# Altium schematic symbol library DBLib.SchLib: 89 symbols
Pins are listed as number, name and electrical type; pins without a type are passive.

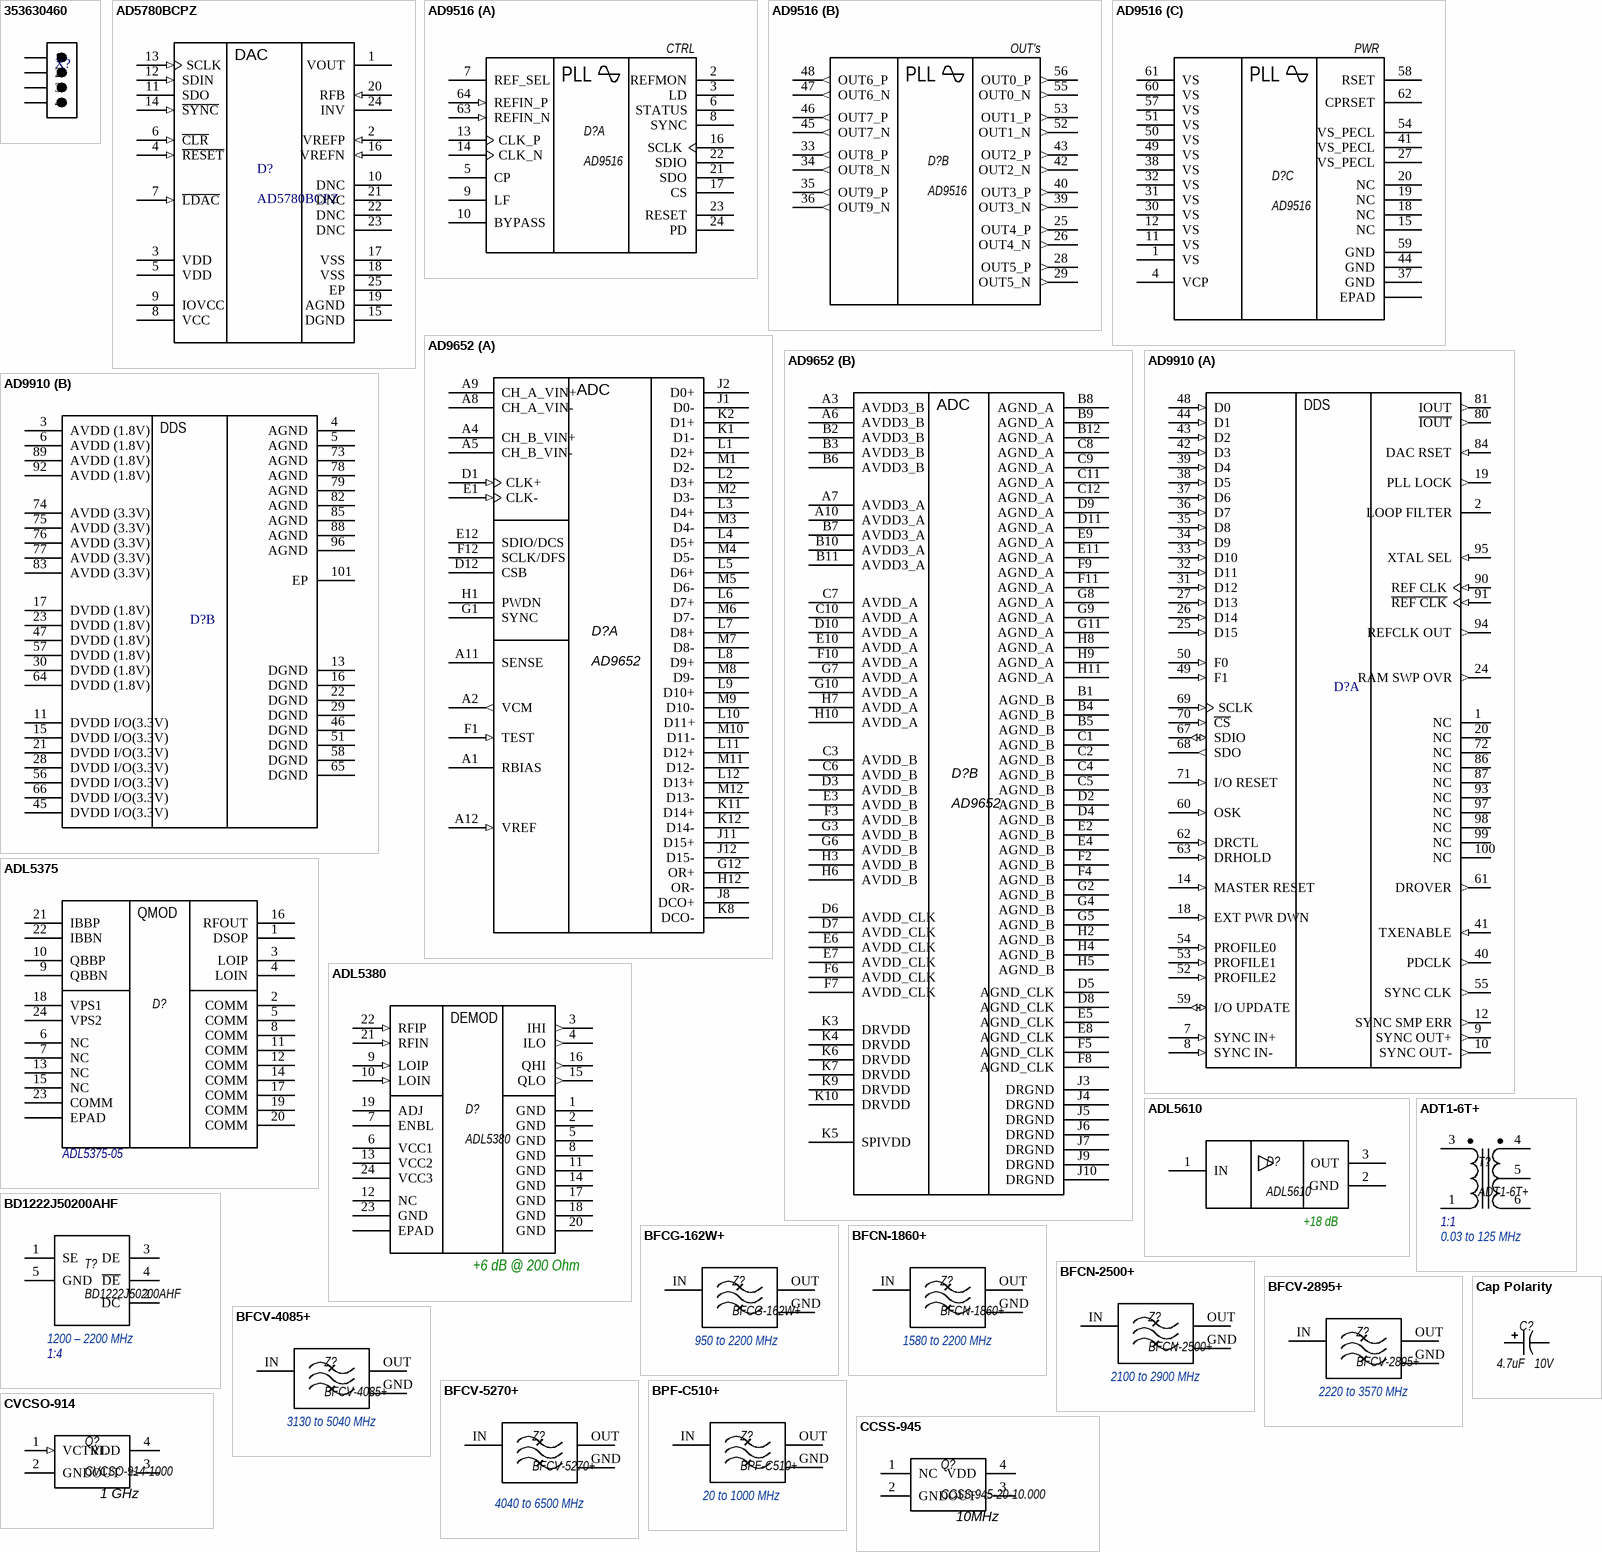
[diagram p0: symbols 353630460 to CVCSO-914]

## 353630460
designator X?  (value not drawn)
2.00mm Pitch Sherlock Wire-to-Board Header, Right-Angle, with Positive Lock, 4 Circuits; Manufacturer: Molex; Mate-with P/N: 355070400; Mate-with Series: 35507; P/N: 353630460; Type: 2.00mm Pitch Sherlock Wire-to-Board Header, Right-Angle; Series: 35363; Pitch: 2.00mm; Name: 353630460; Supplier 1: Digi-Key; Supplier Part Number 1: WM18933-ND
footprint CON_353630460
pins: 1, 2, 3, 4

## AD5780BCPZ
designator D?
Single 18-Bit System Ready Voltage Output Digital-to-Analog Converter, + / -1 LSB INL, -40 to +125 degC, CP-24-5, Pb-Free, Reel; Generic Part Number: AD5780; Manufacturer: Analog Devices; Single Supply: No; Settling Time: 2.5Âµs; Max V+: 16.5V; Resolution (Bits): 18; # DAC Outputs: 1; ComponentLink4Description: Product URL; PartNumber: AD5780BCPZ; ComponentLink1Description: Manufacturer URL; ComponentLink2Description: Datasheet; DatasheetVersion: Rev.C; ComponentLink3URL: http://www.analog.com/static/imported-files/packages/PKG_PDF/LFCSP(CP)/CP_24_5.pdf; ComponentLink1URL: http://www.analog.com/en/index.html; RevisionNote: Component URL fixed; ComponentLink4URL: http://www.analog.com/en/digital-to-analog-converters/da-converters/ad5780/products/product.html; ComponentLink2URL: http://www.analog.com/static/imported-files/data_sheets/AD5780.pdf; PackageReference: CP-24-5; ComponentLink3Description: Package Specification; PackageVersion: 04-11-2012-B; RoHS: Y; Mounting Technology: Surface Mount; PackageDescription: 24-Lead Lead Frame Chip Scale Package [LFCSP_VQ] 4 x 5 mm Body, Very Thin Quad
footprint CP-24-5_L (QFN, 24-Leads, Body 4x5mm, Pitch 0.5mm, Thermal Pad 2.65x3.65mm, IPC High Density)
footprint CP-24-5_N (QFN, 24-Leads, Body 4x5mm, Pitch 0.5mm, Thermal Pad 2.65x3.65mm, IPC Medium Density)
footprint CP-24-5_M (QFN, 24-Leads, Body 4x5mm, Pitch 0.5mm, Thermal Pad 2.65x3.65mm, IPC Low Density)
pins: 1 VOUT (hiz) "Analog Output Voltage.", 2 VREFP (in) "Positive Reference Voltage Input. A voltage in the range of 5 V to VDD - 2.5 V can be connected to this pin.", 3 VDD (power) "Positive Analog Supply Connection. A voltage in the range of 7.5 V to 16.5 V can be connected to this pin. VDD must be decoupled to AGND.", 4 ~{RESET} (in) "Active Low Reset. Asserting this pin returns the AD5780 to its power-on status.", 5 VDD (power) "Positive Analog Supply Connection. A voltage in the range of 7.5 V to 16.5 V can be connected to this pin. VDD must be decoupled to AGND.", 6 ~{CLR} (in) "Active Low Input. Asserting this pin sets the DAC register to a user defined value (see Table 12) and updates the DAC output. The output value depends on the DAC register coding that is being used, either binary or twos (See Datasheet)", 7 ~{LDAC} (in) "Active Low Load DAC Logic Input. This pin is used to update the DAC register and, consequently, the analog output. When tied permanently low, the output is updated on the rising edge of S\Y\N\C\. If L\D\A\C\ is held high (See Datasheet)", 8 VCC (power) "Digital Supply. Voltage range is from 2.7 V to 5.5 V. VCC should be decoupled to DGND.", 9 IOVCC (power) "Digital Interface Supply. Digital threshold levels are referenced to the voltage applied to this pin. Voltage range is from 1.71 V to 5.5 V.", 10 DNC "Do Not Connect. Do not connect to these pins.", 11 SDO (hiz) "Serial Data Output.", 12 SDIN (in) "Serial Data Input. This device has a 24-bit input shift register. Data is clocked into the register on the falling edge of the serial clock input.", 13 SCLK (in) "Serial Clock Input. Data is clocked into the input shift register on the falling edge of the serial clock input. Data can be transferred at rates of up to 35 MHz.", 14 ~{SYNC} (in) "Level Triggered Control Input (Active Low). This is the frame synchronization signal for the input data. When S\Y\N\C\ goes low, it enables the input shift register, and data is then transferred in on the falling edges of (See Datasheet)", 15 DGND (power) "Ground Reference Pin for Digital Circuitry.", 16 VREFN (in) "Negative Reference Voltage Input.", 17 VSS (power) "Negative Analog Supply Connection. A voltage in the range of -16.5 V to -2.5 V can be connected to this pin. VSS must be decoupled to AGND.", 18 VSS (power) "Negative Analog Supply Connection. A voltage in the range of -16.5 V to -2.5 V can be connected to this pin. VSS must be decoupled to AGND.", 19 AGND (power) "Ground Reference Pin for Analog Circuitry.", 20 RFB (in) "Feedback Connection for External Amplifier. See the AD5780 Features section for further details.", 21 DNC "Do Not Connect. Do not connect to these pins.", 22 DNC "Do Not Connect. Do not connect to these pins.", 23 DNC "Do Not Connect. Do not connect to these pins.", 24 INV "Inverting Input Connection for External Amplifier. See the AD5780 Features section for further details.", 25 EP (power) "Negative Analog Supply Connection (VSS). A voltage in the range of -16.5 V to -2.5 V can be connected to this pin. VSS must be decoupled to AGND. The paddle can be left electrically unconnected provided that a supply (See Datasheet)"
text: DAC

## AD9516
designator D?
14-Output Clock Generator; Manufacturer: Analog Devices; Input Frequency: 0 to 2.4 GHz; Input Sensitivity: 150 mV p-p; Name: AD9516-4; Output Frequency, Maximum: 2950 MHz; Voltage: 2.5 V to 3.3 V; P/N: AD9516-4BCPZ; Package: LFSCSP-64; Temperature Range: −40°C to +85°C; Type: 14-Output Clock Generator; Supplier 1: Digi-Key; Supplier Part Number 1: AD9516-4BCPZ-ND
footprint LFCSP-64
part A pins: 2 REFMON, 3 LD, 5 CP, 6 STATUS, 7 REF_SEL, 8 SYNC, 9 LF, 10 BYPASS, 13 CLK_P, 14 CLK_N, 16 SCLK, 17 CS, 21 SDO, 22 SDIO, 23 RESET, 24 PD, 63 REFIN_N (in), 64 REFIN_P (in)
part B pins: 25 OUT4_P (out), 26 OUT4_N (out), 28 OUT5_P (out), 29 OUT5_N (out), 33 OUT8_P (out), 34 OUT8_N (out), 35 OUT9_P (out), 36 OUT9_N (out), 39 OUT3_N (out), 40 OUT3_P (out), 42 OUT2_N (out), 43 OUT2_P (out), 45 OUT7_N (out), 46 OUT7_P (out), 47 OUT6_N (out), 48 OUT6_P (out), 52 OUT1_N (out), 53 OUT1_P (out), 55 OUT0_N (out), 56 OUT0_P (out)
part C pins: 0 EPAD (power), 1 VS (power), 4 VCP (power), 11 VS (power), 12 VS (power), 15 NC, 18 NC, 19 NC, 20 NC, 27 VS_PECL (power), 30 VS (power), 31 VS (power), 32 VS (power), 37 GND (power), 38 VS (power), 41 VS_PECL (power), 44 GND (power), 49 VS (power), 50 VS (power), 51 VS (power), 54 VS_PECL (power), 57 VS (power), 58 RSET, 59 GND (power), 60 VS (power), 61 VS (power), 62 CPRSET
part A text: CTRL; PLL
part B text: OUT's; PLL
part C text: PWR; PLL

## AD9652
designator D?
Dual, 16-bit analog-to-digital converter (ADC) / with sampling speeds of up to 310 MSPS; Manufacturer: Analog Devices; P/N: AD9652BBCZ-310; Name: AD9652; Sampling Frequency: 310 MSPS; Type: ADC; Supplier 1: Digi-Key; Supplier Part Number 1: AD9652BBCZ-310-ND
footprint BGA144x12
part A pins: A1 RBIAS, A2 VCM (out), A4 CH_B_VIN+, A5 CH_B_VIN-, A8 CH_A_VIN-, A9 CH_A_VIN+, A11 SENSE, A12 VREF (in), D1 CLK+ (in), D12 CSB, E1 CLK- (in), E12 SDIO/DCS, F1 TEST (in), F12 SCLK/DFS, G1 SYNC, G12 OR+, H1 PWDN, H12 OR-, J1 D0-, J2 D0+, J8 DCO+, J11 D15+, J12 D15-, K1 D1-, K2 D1+, K8 DCO-, K11 D14+, K12 D14-, L1 D2+, L2 D3+, L3 D4+, L4 D5+, L5 D6+, L6 D7+, L7 D8+, L8 D9+, L9 D10+, L10 D11+, L11 D12+, L12 D13+, M1 D2-, M2 D3-, M3 D4-, M4 D5-, M5 D6-, M6 D7-, M7 D8-, M8 D9-, M9 D10-, M10 D11-, M11 D12-, M12 D13-
part B pins: A3 AVDD3_B, A6 AVDD3_B, A7 AVDD3_A, A10 AVDD3_A, B1 AGND_B, B2 AVDD3_B, B3 AVDD3_B, B4 AGND_B, B5 AGND_B, B6 AVDD3_B, B7 AVDD3_A, B8 AGND_A, B9 AGND_A, B10 AVDD3_A, B11 AVDD3_A, B12 AGND_A, C1 AGND_B, C2 AGND_B, C3 AVDD_B, C4 AGND_B, C5 AGND_B, C6 AVDD_B, C7 AVDD_A, C8 AGND_A, C9 AGND_A, C10 AVDD_A, C11 AGND_A, C12 AGND_A, D2 AGND_B, D3 AVDD_B, D4 AGND_B, D5 AGND_CLK, D6 AVDD_CLK, D7 AVDD_CLK, D8 AGND_CLK, D9 AGND_A, D10 AVDD_A, D11 AGND_A, E2 AGND_B, E3 AVDD_B, E4 AGND_B, E5 AGND_CLK, E6 AVDD_CLK, E7 AVDD_CLK, E8 AGND_CLK, E9 AGND_A, E10 AVDD_A, E11 AGND_A, F2 AGND_B, F3 AVDD_B, F4 AGND_B, F5 AGND_CLK, F6 AVDD_CLK, F7 AVDD_CLK, F8 AGND_CLK, F9 AGND_A, F10 AVDD_A, F11 AGND_A, G2 AGND_B, G3 AVDD_B, G4 AGND_B, G5 AGND_B, G6 AVDD_B, G7 AVDD_A, G8 AGND_A, G9 AGND_A, G10 AVDD_A, G11 AGND_A, H2 AGND_B, H3 AVDD_B, H4 AGND_B, H5 AGND_B, H6 AVDD_B, H7 AVDD_A, H8 AGND_A, H9 AGND_A, H10 AVDD_A, H11 AGND_A, J3 DRGND, J4 DRGND, J5 DRGND, J6 DRGND, J7 DRGND, J9 DRGND, J10 DRGND, K3 DRVDD, K4 DRVDD, K5 SPIVDD, K6 DRVDD, K7 DRVDD, K9 DRVDD, K10 DRVDD

## AD9910
designator D?, comment AD9910BSVZ  (value not drawn)
1 GSPS, 14-Bit, 3.3 V CMOS / Direct Digital Synthesizer; Name: AD9910; P/N: AD9910BSVZ
footprint Analog_Devices_SV-100-4_IPC_A
footprint Analog_Devices_SV-100-4_IPC_B
footprint Analog_Devices_SV-100-4_IPC_C
part A pins: 1 NC, 2 LOOP FILTER, 7 SYNC IN+ (in), 8 SYNC IN- (in), 9 SYNC OUT+ (out), 10 SYNC OUT- (out), 12 SYNC SMP ERR (out), 14 MASTER RESET (in), 18 EXT PWR DWN (in), 19 PLL LOCK (out), 20 NC, 24 RAM SWP OVR (out), 25 D15 (in), 26 D14 (in), 27 D13 (in), 31 D12 (in), 32 D11 (in), 33 D10 (in), 34 D9 (in), 35 D8 (in), 36 D7 (in), 37 D6 (in), 38 D5 (in), 39 D4 (in), 40 PDCLK (out), 41 TXENABLE (in), 42 D3 (in), 43 D2 (in), 44 D1 (in), 48 D0 (in), 49 F1 (in), 50 F0 (in), 52 PROFILE2 (in), 53 PROFILE1 (in), 54 PROFILE0 (in), 55 SYNC CLK (out), 59 I/O UPDATE (io), 60 OSK (in), 61 DROVER (out), 62 DRCTL (in), 63 DRHOLD (in), 67 SDIO (io), 68 SDO (out), 69 SCLK (in), 70 ~{CS} (in), 71 I/O RESET (in), 72 NC, 80 ~{IOUT} (out), 81 IOUT (out), 84 DAC RSET (in), 86 NC, 87 NC, 90 REF CLK (in), 91 ~{REF CLK} (in), 93 NC, 94 REFCLK OUT (out), 95 XTAL SEL (in), 97 NC, 98 NC, 99 NC, 100 NC
part B pins: 3 AVDD (1.8V) (power), 4 AGND (power), 5 AGND (power), 6 AVDD (1.8V) (power), 11 DVDD I/O(3.3V) (power), 13 DGND (power), 15 DVDD I/O(3.3V) (power), 16 DGND (power), 17 DVDD (1.8V) (power), 21 DVDD I/O(3.3V) (power), 22 DGND (power), 23 DVDD (1.8V) (power), 28 DVDD I/O(3.3V) (power), 29 DGND (power), 30 DVDD (1.8V) (power), 45 DVDD I/O(3.3V) (power), 46 DGND (power), 47 DVDD (1.8V) (power), 51 DGND (power), 56 DVDD I/O(3.3V) (power), 57 DVDD (1.8V) (power), 58 DGND (power), 64 DVDD (1.8V) (power), 65 DGND (power), 66 DVDD I/O(3.3V) (power), 73 AGND (power), 74 AVDD (3.3V) (power), 75 AVDD (3.3V) (power), 76 AVDD (3.3V) (power), 77 AVDD (3.3V) (power), 78 AGND (power), 79 AGND (power), 82 AGND (power), 83 AVDD (3.3V) (power), 85 AGND (power), 88 AGND (power), 89 AVDD (1.8V) (power), 92 AVDD (1.8V) (power), 96 AGND (power), 101 EP (power)
part A text: DDS
part B text: DDS

## ADL5375
designator D?  Name: ADL5375-05  (hidden comment: ADL5375)
Broadband Quadrature Modulator; Manufacturer: Analog Devices; Voltage: 4.75 V to 5.25 V; P/N: ADL5375-05SCPZEPR7; Package: 24-lead LFCSP_VQ package; Temperature Range: –40°C to 125°C; Type: Broadband Quadrature Modulator; Supplier 1: Digi-Key; Supplier Part Number 1: ADL5375-05ACPZ-R7CT-ND
footprint LFCSP-24 (QFN, 24-Leads, Body 4,00x4,00mm, Pitch 0,50mm, Thermal Pad 2,50x2,50mm, IPC Medium Density)
pins: 1 DSOP, 2 COMM, 3 LOIP, 4 LOIN, 5 COMM, 6 NC, 7 NC, 8 COMM, 9 QBBN, 10 QBBP, 11 COMM, 12 COMM, 13 NC, 14 COMM, 15 NC, 16 RFOUT, 17 COMM, 18 VPS1, 19 COMM, 20 COMM, 21 IBBP, 22 IBBN, 23 COMM, 24 VPS2, 25 EPAD
text: QMOD

## ADL5380
designator D?
Quadrature Demodulator; Manufacturer: Analog Devices; Voltage: 5V; Type: Broadband quadrature I-Q demodulator; P/N: ADL5380ACPZ-R7; Name: ADL5380; Package: 24-Lead LFCSP_WQ; Temperature Range: –40°C to 125°C; Supplier 1: Digi-Key; Supplier Part Number 1: ADL5380ACPZ-R7CT-ND
footprint LFCSP-24 (QFN, 24-Leads, Body 4,00x4,00mm, Pitch 0,50mm, Thermal Pad 2,50x2,50mm, IPC Medium Density)
pins: 1 GND, 2 GND, 3 IHI (out), 4 ILO (out), 5 GND, 6 VCC1, 7 ENBL, 8 GND, 9 LOIP (in), 10 LOIN (in), 11 GND, 12 NC, 13 VCC2, 14 GND, 15 QLO (out), 16 QHI (out), 17 GND, 18 GND, 19 ADJ, 20 GND, 21 RFIN (in), 22 RFIP (in), 23 GND, 24 VCC3, 25 EPAD
text: DEMOD; +6 dB @ 200 Ohm

## ADL5610
designator D?
RF/IF Gain Block; Manufacturer: Analog Devices; P/N: ADL5610ARKZ-R7; Name: ADL5610; Package: SOT89; Type: RF/IF Gain Block; Supplier 1: Digi-Key; Supplier Part Number 1: ADL5610ARKZ-R7CT-ND
footprint ADL5610 (SOT89, 3-Leads, Body 4,49x2,44mm, Pitch 1,50mm, Lead Span 4,0mm, IPC Medium Density)
pins: 1 IN, 2 GND, 3 OUT
text: +18 dB

## ADT1-6T+
designator T?  Frequency: 0.03 to 125 MHz  Ratio: 1:1
RF Transformer; Manufacturer: Mini-Circuits; Name: ADT1-6T+; P/N: ADT1-6T+; Type: RF Transformer; Package: CD637
footprint CD637 (RF Transformer)
pins: 1, 3, 4, 5, 6

## BD1222J50200AHF
designator T?  Frequency: 1200 – 2200 MHz  Ratio: 1:4
RF Transformer; Manufacturer: Anaren; Name: BD1222J50200AHF; P/N: BD1222J50200AHF; Type: RF Transformer; Package: Low Profile 0805; Supplier 1: Mouser; Supplier Part Number 1: 620-BD1222J50200AHF
footprint BD1222J (Low Profile 0805 Balun)
pins: 1 SE, 2 DC, 3 DE, 4 ~{DE}, 5 GND

## BFCG-162W+
designator Z?  Frequency: 950 to 2200 MHz
Bandpass Filter; Manufacturer: Mini-Circuits; Name: BFCG-162W+; P/N: BFCG-162W+; Type: Bandpass Filter; Package: GE0805C-3
footprint GE0805C-3 (Bandpass Filter)
pins: GND, IN, OUT

## BFCN-1860+
designator Z?  Frequency: 1580 to 2200 MHz
Bandpass Filter; Manufacturer: Mini-Circuits; Name: BFCN-1860+; P/N: BFCN-1860+; Type: Bandpass Filter; Package: FV1206-4
footprint FV1206-4 (Bandpass Filter)
pins: GND, IN, OUT

## BFCN-2500+
designator Z?  Frequency: 2100 to 2900 MHz
Bandpass Filter; Manufacturer: Mini-Circuits; Name: BFCN-2500+; P/N: BFCN-2500+; Type: Bandpass Filter; Package: FV1206-4
footprint FV1206-4 (Bandpass Filter)
pins: GND, IN, OUT

## BFCV-2895+
designator Z?  Frequency: 2220 to 3570 MHz
Bandpass Filter; Manufacturer: Mini-Circuits; Name: BFCV-2895+; P/N: BFCV-2895+; Type: Bandpass Filter; Package: JV1210C
footprint JV1210C (Bandpass Filter)
pins: GND, IN, OUT

## BFCV-4085+
designator Z?  Frequency: 3130 to 5040 MHz
Bandpass Filter; Manufacturer: Mini-Circuits; Name: BFCV-4085+; P/N: BFCV-4085+; Type: Bandpass Filter; Package: JV1210C
footprint JV1210C (Bandpass Filter)
pins: GND, IN, OUT

## BFCV-5270+
designator Z?  Frequency: 4040 to 6500 MHz
Bandpass Filter; Manufacturer: Mini-Circuits; Name: BFCV-5270+; P/N: BFCV-5270+; Type: Bandpass Filter; Package: JV1210C
footprint JV1210C (Bandpass Filter)
pins: GND, IN, OUT

## BPF-C510+
designator Z?  Frequency: 20 to 1000 MHz
Wide band filter; Manufacturer: Mini-Circuits; Name: BPF-C510+; P/N: BPF-C510+; Type: Bandpass Filter; Package: HU1186
footprint BPF-C510+ (Bandpass Filter)
pins: GND, IN, OUT

## Cap Polarity
designator C?  value 4.7uF  Voltage: 10V  (hidden comment: *)
Tantalum Polarity SMD Capacitor; Manufacturer: AVX; Name: Tantalum Capacitor; Tolerance: 5%; Type: Tantalum Polarity Cap; P/N: TAJA475J010RNJ; Temperature Range: -55…85°C; Supplier 1: Digi-Key; Supplier Part Number 1: TAJA475J010RNJ-ND
footprint CASE_A (Tantalum Cap)
pins: 1, 2

## CCSS-945
designator Q?, comment CCSS-945-20-10.000  Frequency: 10MHz
Ultra Low Noise / SineWave Clock Oscillator; Input Current: 15mA Typical; Name: CCSS-945-10; Output: Unsymmetry; Output Current: ±24mA Max; Voltage: 5.0V; Package: 9×14 mm SMD; Temperature Range: 0°C to +70°C; P/N: CCSS-945-20-10.000; Type: SineWave Clock Oscillator
footprint CVCSO-914 (9?14 mm SMD)
pins: 1 NC, 2 GND, 3 OUT (out), 4 VDD

## CVCSO-914
designator Q?, comment CVCSO-914-1000  Frequency: 1 GHz
1GHz SAW Based VCSO; Input Current: 15mA Typical; Output: Unsymmetry; Output Current: ±24mA Max; Voltage: 5.0V; Name: CVCSO-914-1000; Package: CVCSO-914; Temperature Range: 0°C to +70°C; P/N: CVCSO-914-1000; Type: 1GHz SAW Based VCSO
footprint CVCSO-914 (9?14 mm SMD)
pins: 1 VCTRL (in), 2 GND, 3 OUT (out), 4 VDD

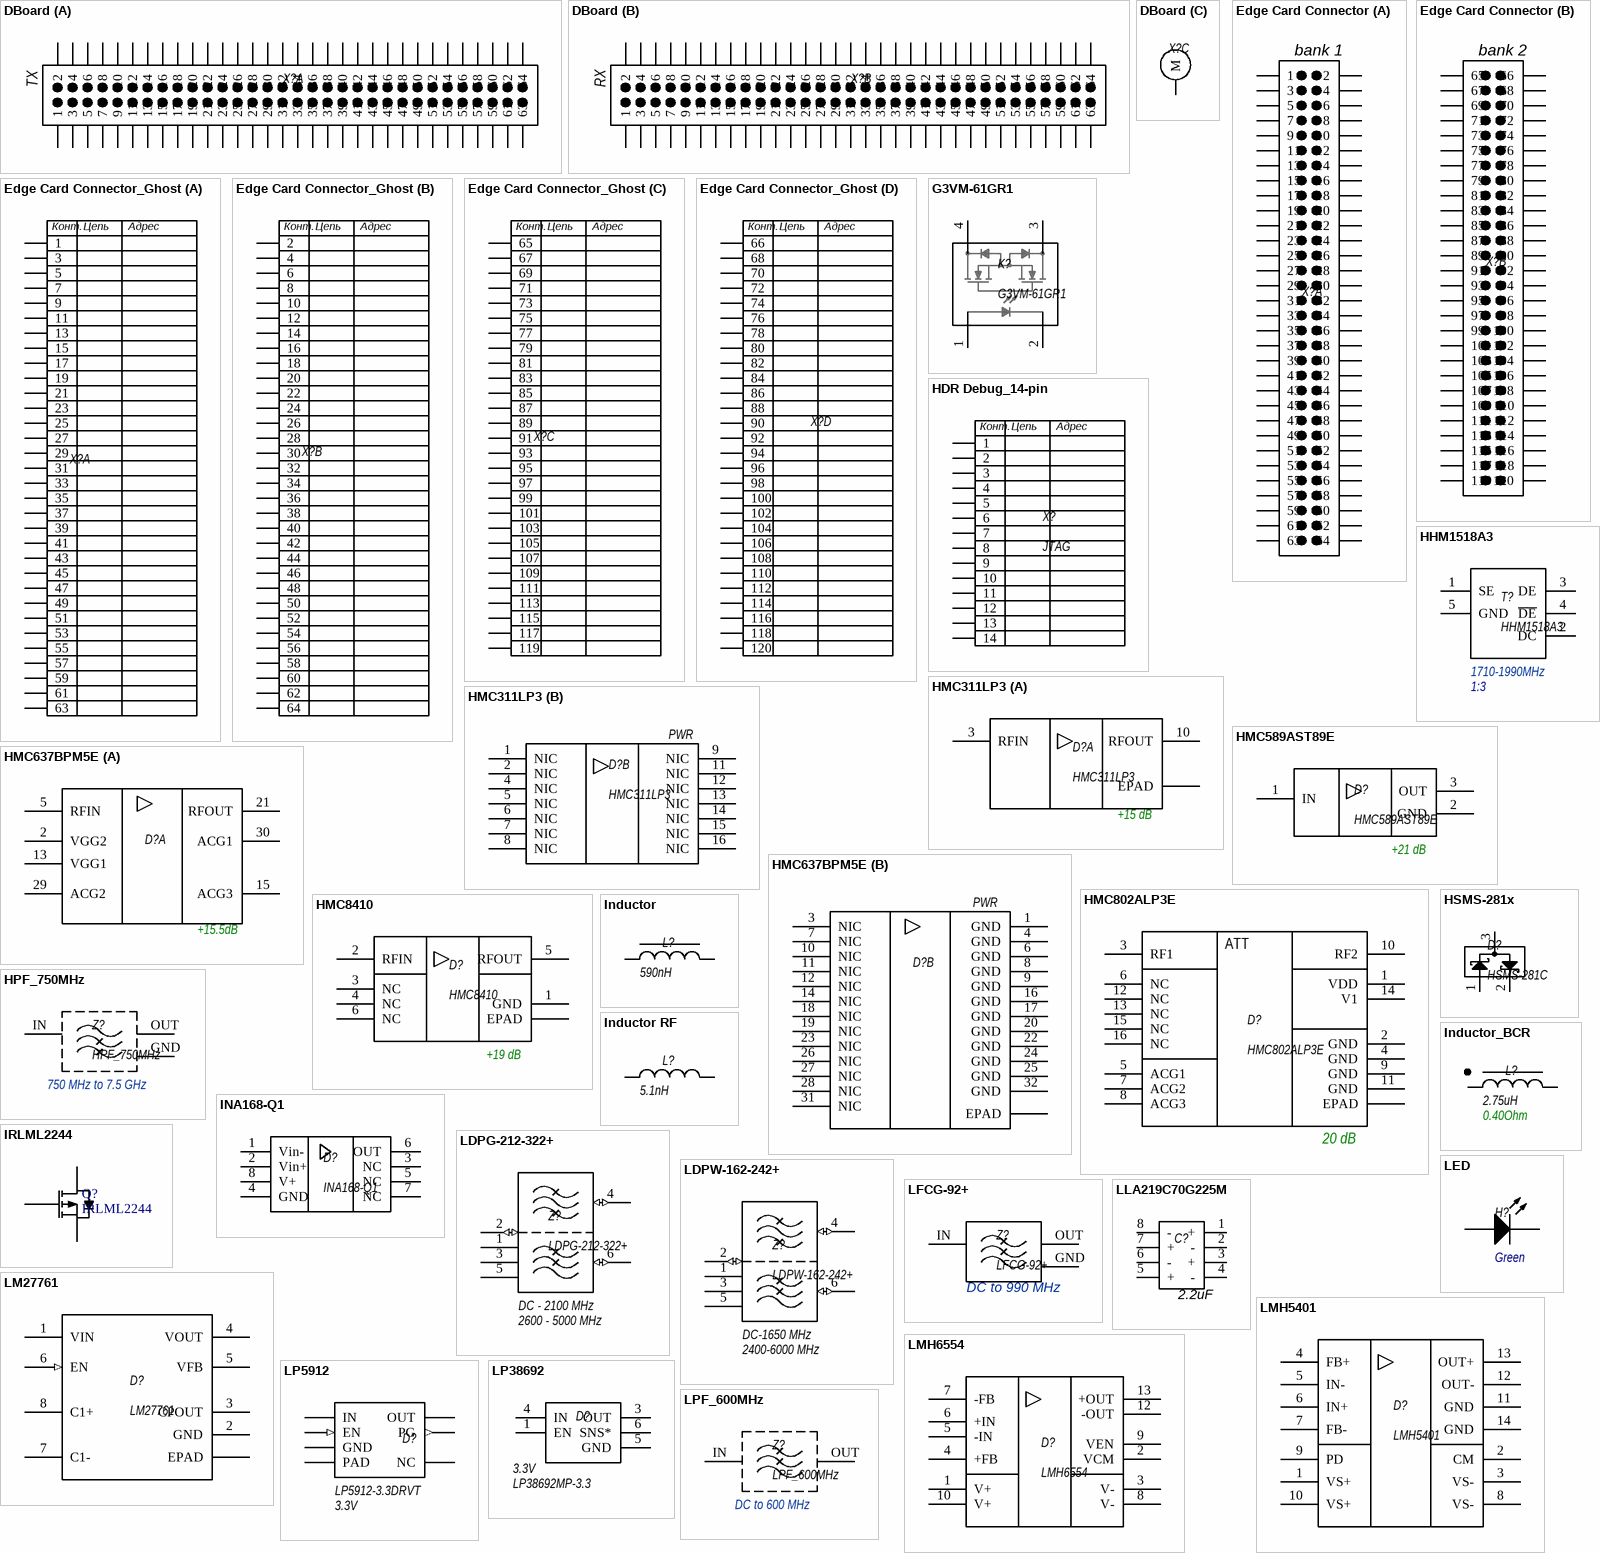
[diagram p1: symbols DBoard to LPF_600MHz]

## DBoard
designator X?  (value not drawn)
USRP DBoard; Manufacturer: Molex; Name: 1.00mm Pitch Mezzanine 714390164; P/N: 714390164; Supplier 1: Digi-Key; Supplier Part Number 1: WM17201-ND
footprint DBoard (USRP DBoard)
part A pins: 1, 2, 3, 4, 5, 6, 7, 8, 9, 10, 11, 12, 13, 14, 15, 16, 17, 18, 19, 20, 21, 22, 23, 24, 25, 26, 27, 28, 29, 30, 31, 32, 33, 34, 35, 36, 37, 38, 39, 40, 41, 42, 43, 44, 45, 46, 47, 48, 49, 50, 51, 52, 53, 54, 55, 56, 57, 58, 59, 60, 61, 62, 63, 64
part B pins: 65 1, 66 2, 67 3, 68 4, 69 5, 70 6, 71 7, 72 8, 73 9, 74 10, 75 11, 76 12, 77 13, 78 14, 79 15, 80 16, 81 17, 82 18, 83 19, 84 20, 85 21, 86 22, 87 23, 88 24, 89 25, 90 26, 91 27, 92 28, 93 29, 94 30, 95 31, 96 32, 97 33, 98 34, 99 35, 100 36, 101 37, 102 38, 103 39, 104 40, 105 41, 106 42, 107 43, 108 44, 109 45, 110 46, 111 47, 112 48, 113 49, 114 50, 115 51, 116 52, 117 53, 118 54, 119 55, 120 56, 121 57, 122 58, 123 59, 124 60, 125 61, 126 62, 127 63, 128 64
part C pins: 0 M
part A text: TX
part B text: RX

## Edge Card Connector
designator X?  (value not drawn)
0.80 mm High-Speed Edge Card Connector, Right-Angle; Manufacturer: SAMTEC; P/N: HSEC8-160-01-S-RA-BL; Name: 0.80 mm High-Speed Edge Card Connector; Supplier 1: Digi-Key; Supplier Part Number 1: HSEC8-160-01-S-RA-BL-ND
footprint Edge Card HSEC8-160-01 (0.80 mm High-Speed Edge Card)
part A pins: 1, 2, 3, 4, 5, 6, 7, 8, 9, 10, 11, 12, 13, 14, 15, 16, 17, 18, 19, 20, 21, 22, 23, 24, 25, 26, 27, 28, 29, 30, 31, 32, 33, 34, 35, 36, 37, 38, 39, 40, 41, 42, 43, 44, 45, 46, 47, 48, 49, 50, 51, 52, 53, 54, 55, 56, 57, 58, 59, 60, 61, 62, 63, 64
part B pins: 65, 66, 67, 68, 69, 70, 71, 72, 73, 74, 75, 76, 77, 78, 79, 80, 81, 82, 83, 84, 85, 86, 87, 88, 89, 90, 91, 92, 93, 94, 95, 96, 97, 98, 99, 100, 101, 102, 103, 104, 105, 106, 107, 108, 109, 110, 111, 112, 113, 114, 115, 116, 117, 118, 119, 120
part A text: bank 1
part B text: bank 2

## Edge Card Connector_Ghost
designator X?  (value not drawn)
0.80 mm High-Speed Edge Card Connector, Right-Angle; Manufacturer: SAMTEC; P/N: HSEC8-160-01-S-RA-BL; Name: 0.80 mm High-Speed Edge Card Connector; Supplier 1: Digi-Key; Supplier Part Number 1: HSEC8-160-01-S-RA-BL-ND
footprint Edge Card HSEC8-160-01 (0.80 mm High-Speed Edge Card)
part A pins: 1, 3, 5, 7, 9, 11, 13, 15, 17, 19, 21, 23, 25, 27, 29, 31, 33, 35, 37, 39, 41, 43, 45, 47, 49, 51, 53, 55, 57, 59, 61, 63
part B pins: 2, 4, 6, 8, 10, 12, 14, 16, 18, 20, 22, 24, 26, 28, 30, 32, 34, 36, 38, 40, 42, 44, 46, 48, 50, 52, 54, 56, 58, 60, 62, 64
part C pins: 65, 67, 69, 71, 73, 75, 77, 79, 81, 83, 85, 87, 89, 91, 93, 95, 97, 99, 101, 103, 105, 107, 109, 111, 113, 115, 117, 119
part D pins: 66, 68, 70, 72, 74, 76, 78, 80, 82, 84, 86, 88, 90, 92, 94, 96, 98, 100, 102, 104, 106, 108, 110, 112, 114, 116, 118, 120
part A text: Конт.; Цепь; Адрес
part B text: Конт.; Цепь; Адрес
part C text: Конт.; Цепь; Адрес
part D text: Конт.; Цепь; Адрес

## G3VM-61GR1
designator K?
MOS FET Relay; Manufacturer: Omron; Channel Resistance: 700 mOhm; Current: 1A; Voltage: 60V; Name: G3VM-61GR1; Package: SOT-23F; P/N: G3VM-61GR1; Supplier 1: Digi-Key; Supplier Part Number 1: Z4069CT-ND
footprint G3VM-61 (MOS FET Relays)
pins: 1, 2, 3, 4

## HDR Debug_14-pin
designator X?, comment JTAG
14-pin PCB Header; Name: JTAG Header 7x2; Type: Two Row Male Header 100mil Step; P/N: *
footprint JTAG Mail
footprint JTAG Mail 1.27mm
footprint JTAG Mail 2mm (2.00mm Pitch, Milli-Grid PCB Header, Dual Row, Vertical, Through Hole, Shrouded, 14  Circuits)
pins: 1, 2, 3, 4, 5, 6, 7, 8, 9, 10, 11, 12, 13, 14
text: Конт.; Цепь; Адрес

## HHM1518A3
designator T?  Frequency: 1710-1990MHz  Ratio: 1:3
Multilayer Balun; Manufacturer: TDK; Name: HHM1518A3; P/N: HHM1518A3; Type: Multilayer Balun; Package: EIA 0805; Supplier 1: Digi-Key; Supplier Part Number 1: 445-3984-6-ND
footprint EIA 0805 (Multilayer Balun)
pins: 1 SE, 2 DC, 3 DE, 4 ~{DE}, 5 GND

## HMC311LP3
designator D?
InGaP HBT GAIN BLOCK; Manufacturer: Analog Devices; P/N: HMC311LP3E; Name: HMC311LP3; Package: 16 Lead 3x3mm SMT; Type: GAIN BLOCK
footprint QFN-16 v2 (QFN, 16-Leads, Body 3,00x3,00mm, Pitch 0,50mm, Thermal Pad 1,73x1,73mm, IPC Medium Density)
part A pins: 3 RFIN, 10 RFOUT, 17 EPAD
part B pins: 1 NIC, 2 NIC, 4 NIC, 5 NIC, 6 NIC, 7 NIC, 8 NIC, 9 NIC, 11 NIC, 12 NIC, 13 NIC, 14 NIC, 15 NIC, 16 NIC
part A text: +15 dB
part B text: PWR

## HMC589AST89E
designator D?
InGaP HBT GAIN BLOCK; Manufacturer: Analog Devices; Name: HMC589AST89E; Package: SOT89E; Type: InGaP HBT GAIN BLOCK; P/N: HMC589AST89E; Supplier 1: Digi-Key; Supplier Part Number 1: 1127-3329-1-ND
footprint SOT89 (SOT89, 3-Leads, Body 4,49x2,44mm, Pitch 1,50mm, Lead Span 4,0mm, IPC Medium Density)
pins: 1 IN, 2 GND, 3 OUT
text: +21 dB

## HMC637BPM5E
designator D?  (value not drawn)
1 W Power Amplifier; Manufacturer: Analog Devices; Voltage: 12 V at 345 mA typical; Package: 32-lead, 5 mm × 5 mm LFCSP; Temperature Range: -40°C ~ 105°C; Type: Power Amplifier; P/N: HMC637BPM5E; Name: HMC637BPM5E
footprint LFCSP-32 (LFCSP, 32-Leads, Body 5,00x5,00mm, Pitch 0,50mm)
part A pins: 2 VGG2, 5 RFIN, 13 VGG1, 15 ACG3, 21 RFOUT, 29 ACG2, 30 ACG1
part B pins: 0 EPAD, 1 GND, 3 NIC, 4 GND, 6 GND, 7 NIC, 8 GND, 9 GND, 10 NIC, 11 NIC, 12 NIC, 14 NIC, 16 GND, 17 GND, 18 NIC, 19 NIC, 20 GND, 22 GND, 23 NIC, 24 GND, 25 GND, 26 NIC, 27 NIC, 28 NIC, 31 NIC, 32 GND
part A text: +15.5dB
part B text: PWR

## HMC802ALP3E
designator D?
POSITIVE CONTROL ATTENUATOR; Manufacturer: Analog Devices; Type: 20 dB GaAs MMIC 1-BIT DIGITAL; Name: HMC802ALP3E; Package: 16 Lead 3x3mm SMT; P/N: HMC802ALP3E; Supplier 1: Digi-Key; Supplier Part Number 1: 1127-3186-ND
footprint QFN-16 v2 (QFN, 16-Leads, Body 3,00x3,00mm, Pitch 0,50mm, Thermal Pad 1,73x1,73mm, IPC Medium Density)
pins: 1 VDD, 2 GND, 3 RF1, 4 GND, 5 ACG1, 6 NC, 7 ACG2, 8 ACG3, 9 GND, 10 RF2, 11 GND, 12 NC, 13 NC, 14 V1, 15 NC, 16 NC, 17 EPAD
text: ATT; 20 dB

## HMC8410
designator D?
Low Noise Amplifier; Manufacturer: Analog Devices; Type: LNA; P/N: HMC8410LP2FE; Name: HMC8410; Package: LFSCP 2x2 mm; Supplier 1: Digi-Key; Supplier Part Number 1: 1127-3353-ND
footprint LFCSP 2x2 mm (LFCSP, 6-Leads, Body 2,00x2,00mm, Pitch 0,65mm, Thermal Pad 1,60x0,99mm, IPC Medium Density)
pins: 1 GND, 2 RFIN, 3 NC, 4 NC, 5 RFOUT, 6 NC, 7 EPAD
text: +19 dB

## HPF_750MHz
designator Z?  Frequency: 750 MHz to 7.5 GHz  (net tie)
High Pass Filter; C1: 9.0pF; P/N: GRM1555C1H9R0WA01D; C2: 3.0pF; P/N: GRM1555C1H3R0WA01D; Name: Distributed high pass filter; Tolerance: 1%; Type: Stripline High Pass Filter; C3: 9.0pF
footprint HPF_750_305um (stripline HPF)
pins: GND, IN, OUT

## HSMS-281x
designator D?, comment HSMS-281C
RF Schottky Barrier Diodes; Manufacturer: Broadcom Limited; P/N: HSMS-281C-BLKG; Name: HSMS-281C; Package: SOT-323; Supplier 1: Digi-Key; Supplier Part Number 1: 516-1921-ND
footprint SOT-323
pins: 1 A, 2 K, 3 K

## INA168-Q1
designator D?
Automotive-Grade, High-Side, Current-Output, Current-Shunt Monitor; Manufacturer: Texas Instruments; Name: INA168Q; Voltage: 2.7 V to 60 V; P/N: INA168QPWRQ1; Voltage Gain: Adjustable; Frequency Range: 800kHz; Package: TSSOP (8); Type: Current-Shunt Monitor; Supplier 1: Digi-Key; Supplier Part Number 1: 296-17201-1-ND
footprint TSSOP (8) (TSSOP, 8-Leads)
pins: 1 Vin-, 2 Vin+, 3 NC, 4 GND, 5 NC, 6 OUT, 7 NC, 8 V+

## Inductor
designator L?  value 590nH  (hidden comment: *)
Chip SMD Inductor; Manufacturer: Coilcraft; Current: 320mA; Frequency: 960MHz; Name: 0402DF-591XJR; Tolerance: ±5%; P/N: 0402DF-591XJRU; Series: 0402DF; Temperature Range: -25…85°C
footprint L0402
footprint L0603_LS
footprint L1008_LS
footprint XFL3012
footprint L0805_LS
pins: 1, 2

## Inductor RF
designator L?  value 5.1nH  (hidden comment: *)
Chip SMD Inductor; Manufacturer: Coilcraft; Current: 250mA; Frequency: 5.70GHz; Name: 0603CS-5N1X_E; Tolerance: 5%; P/N: 0603CS-5N1XJL; Series: 0603CS; Temperature Range: -25…85°C
footprint L0603 (Chip Capacitor, Body 1.6x0.8mm, IPC High Density)
footprint L0402_CS (Chip Capacitor, Body 1.0x0.5mm, IPC High Density)
footprint L0603_HP (Chip Capacitor, Body 1.6x0.8mm, IPC High Density)
footprint L0603_LS (Chip Capacitor, Body 1.6x0.8mm, IPC High Density)
footprint L0805_HP
footprint L0402HP
footprint L0402HPH
pins: 1, 2

## Inductor_BCR
designator L?  value 2.75uH  DCR: 0.40Ohm  (hidden comment: *)
Broadband Conical Inductor; Manufacturer: Coilcraft; Current: 675mA; Frequency: 40GHz; Name: BCR-272JL; Tolerance: ±5%; P/N: BCR-272JLB; Series: BCR-272; Temperature Range: -25…85°C
footprint BCR-272 (Broadband Conical Inductors)
footprint BCR-162 (Broadband Conical Inductors)
footprint BCR-122 (Broadband Conical Inductors)
pins: 1, 2

## IRLML2244
designator Q?
P-Channel MOSFET; Current: 4.3A; Channel Resistance: 54 mΩ; Power Dissipation: 1.3W; Voltage: -20V; Name: IRLML2244; Package: SOT-23; Type: P-Channel Mosfet
footprint SOT-23
pins: 1 G, 2 S, 3 D

## LDPG-212-322+
designator Z?  Low Pass: DC - 2100 MHz  High Pass: 2600 - 5000 MHz
Diplexer; Manufacturer: Mini-Circuits; Frequency: DC to 5000 MHz; Name: LDPG-212-322+; P/N: LDPG-212-322+; Type: Diplexer; Package: GE0805C-10
footprint GE0805C-10 (Diplexer)
pins: 1 GND, 2 (io), 3 GND, 4 (io), 5 GND, 6 (io)

## LDPW-162-242+
designator Z?  Low Pass: DC-1650 MHz  High Pass: 2400-6000 MHz
Diplexer; Manufacturer: Mini-Circuits; Frequency: DC to 6000 MHz; Name: LDPW-162-242+; P/N: LDPW-162-242+; Type: Diplexer; Package: JC0603C
footprint JC0603C (Diplexer)
pins: 1 GND, 2 (io), 3 GND, 4 (io), 5 GND, 6 (io)

## LED
designator H?  Color: Green  (hidden comment: LED)
CHIP LED LAMP; Manufacturer: Kingbright; Name: APHCM2012; P/N: APHCM2012CGCK-F01; Package: 2.0 x 1.25 mm SMD; Type: CHIP LED LAMP; Supplier 1: Digi-Key; Supplier Part Number 1: 754-1094-1-ND
footprint LED
pins: 1 K, 2 A

## LFCG-92+
designator Z?  Frequency: DC to 990 MHz
Low Pass Filter; Manufacturer: Mini-Circuits; Name: LFCG-92+; P/N: LFCG-92+; Type: Low Pass Filter; Package: GE0805C-2
footprint GE0805C-2 (Low Pass Filter)
pins: GND, IN, OUT

## LLA219C70G225M
designator C?, comment value 2.2uF  (hidden comment: LLA219C70G225MA01L)
0805 2.2 uF 4 V ±20 % Tolerance X7S Surface Mount Multilayer Ceramic Capacitor; Manufacturer: Murata; Tolerance: 20%; Voltage: 4V; Material: X7S; Type: Multilayer Ceramic Capacitor; Name: LLA219C70G225M; P/N: LLA219C70G225MA01L
footprint Murata_LLA219-0_1_MFG
pins: 1 +, 2 -, 3 +, 4 -, 5 +, 6 -, 7 +, 8 -

## LM27761
designator D?
Low-Noise, Regulated, Switched-Capacitor Voltage Inverter; Manufacturer: Texas Instruments; Voltage: 2.7 V to 5.5; P/N: LM27761DSGT; Current: 250 mA; Name: LM27761; Package: WSON; Temperature Range: –40°C to 125°C; Type: Voltage Inverter
footprint WSON-8 (PLASTIC SMALL OUTLINE - NO LEAD)
pins: 0 EPAD, 1 VIN, 2 GND, 3 CPOUT, 4 VOUT, 5 VFB, 6 EN (in), 7 C1-, 8 C1+

## LMH5401
designator D?
Fully Differential Amplifier; Manufacturer: Texas Instruments; Voltage: 3.15 V ~ 5.25 V; Type: The LMH5401 device is a very high-performance,  differential amplifier optimized for radio frequency  (RF); P/N: LMH5401IRMST; Name: LMH5401; Package: 14-UQFN (2.5x2.5); Temperature Range: –40°C to 125°C; Supplier 1: Digi-Key; Supplier Part Number 1: 296-38513-1-ND
footprint UQFN-14 (LMH5401)
pins: 1 VS+, 2 CM, 3 VS-, 4 FB+, 5 IN-, 6 IN+, 7 FB-, 8 VS-, 9 PD, 10 VS+, 11 GND, 12 OUT-, 13 OUT+, 14 GND

## LMH6554
designator D?
Fully Differential Amplifier; Manufacturer: Texas Instruments; Voltage: 5V; Type: The LMH6554 device is a high-performance fully differential amplifier; P/N: LMH6554LEE/NOPB; Name: LMH6554; Package: 14-lead UQFN; Temperature Range: –40°C to 125°C; Supplier 1: Digi-Key; Supplier Part Number 1: LMH6554LEE/NOPBCT-ND
footprint UQFN-14_2 (LMH6554)
pins: 1 V+, 2 VCM, 3 V-, 4 +FB, 5 -IN, 6 +IN, 7 -FB, 8 V-, 9 VEN, 10 V+, 12 -OUT, 13 +OUT

## LP5912
designator D?  Name: LP5912-3.3DRVT  Voltage: 3.3V  (hidden comment: LP5912)
LP5912 500-mA Low-Noise, Low-IQ LDO; Manufacturer: Texas Instruments; Type: Low-Noise LDO; Current: 500mA; Package: WSON; Temperature Range: –40°C to 125°C; P/N: LP5912-3.3DRVT; Supplier 1: Digi-Key; Supplier Part Number 1: 296-44153-2-ND
footprint WSON-6 (PLASTIC SMALL OUTLINE - NO LEAD)
pins: 0 PAD, 1 OUT, 2 NC, 3 PG (out), 4 EN (in), 5 GND, 6 IN

## LP38692
designator D?  Name: LP38692MP-3.3  Voltage: 3.3V  (hidden comment: LP38692)
Linear Regulator; Manufacturer: Texas Instruments; P/N: LP38692MP-3.3/NOPB; Type: Linear Regulator; Package: SOT-223-5; Supplier 1: Digi-Key; Supplier Part Number 1: LP38692MP-3.3/NOPBDKR-ND
footprint SOT-223-5
pins: 1 EN, 3 OUT, 4 IN, 5 GND, 6 SNS*

## LPF_600MHz
designator Z?  Frequency: DC to 600 MHz
Low Pass Filter; Type: Stripline Low Pass Filter
footprint LPF_600MHz (stripline LPF)
pins: IN, OUT

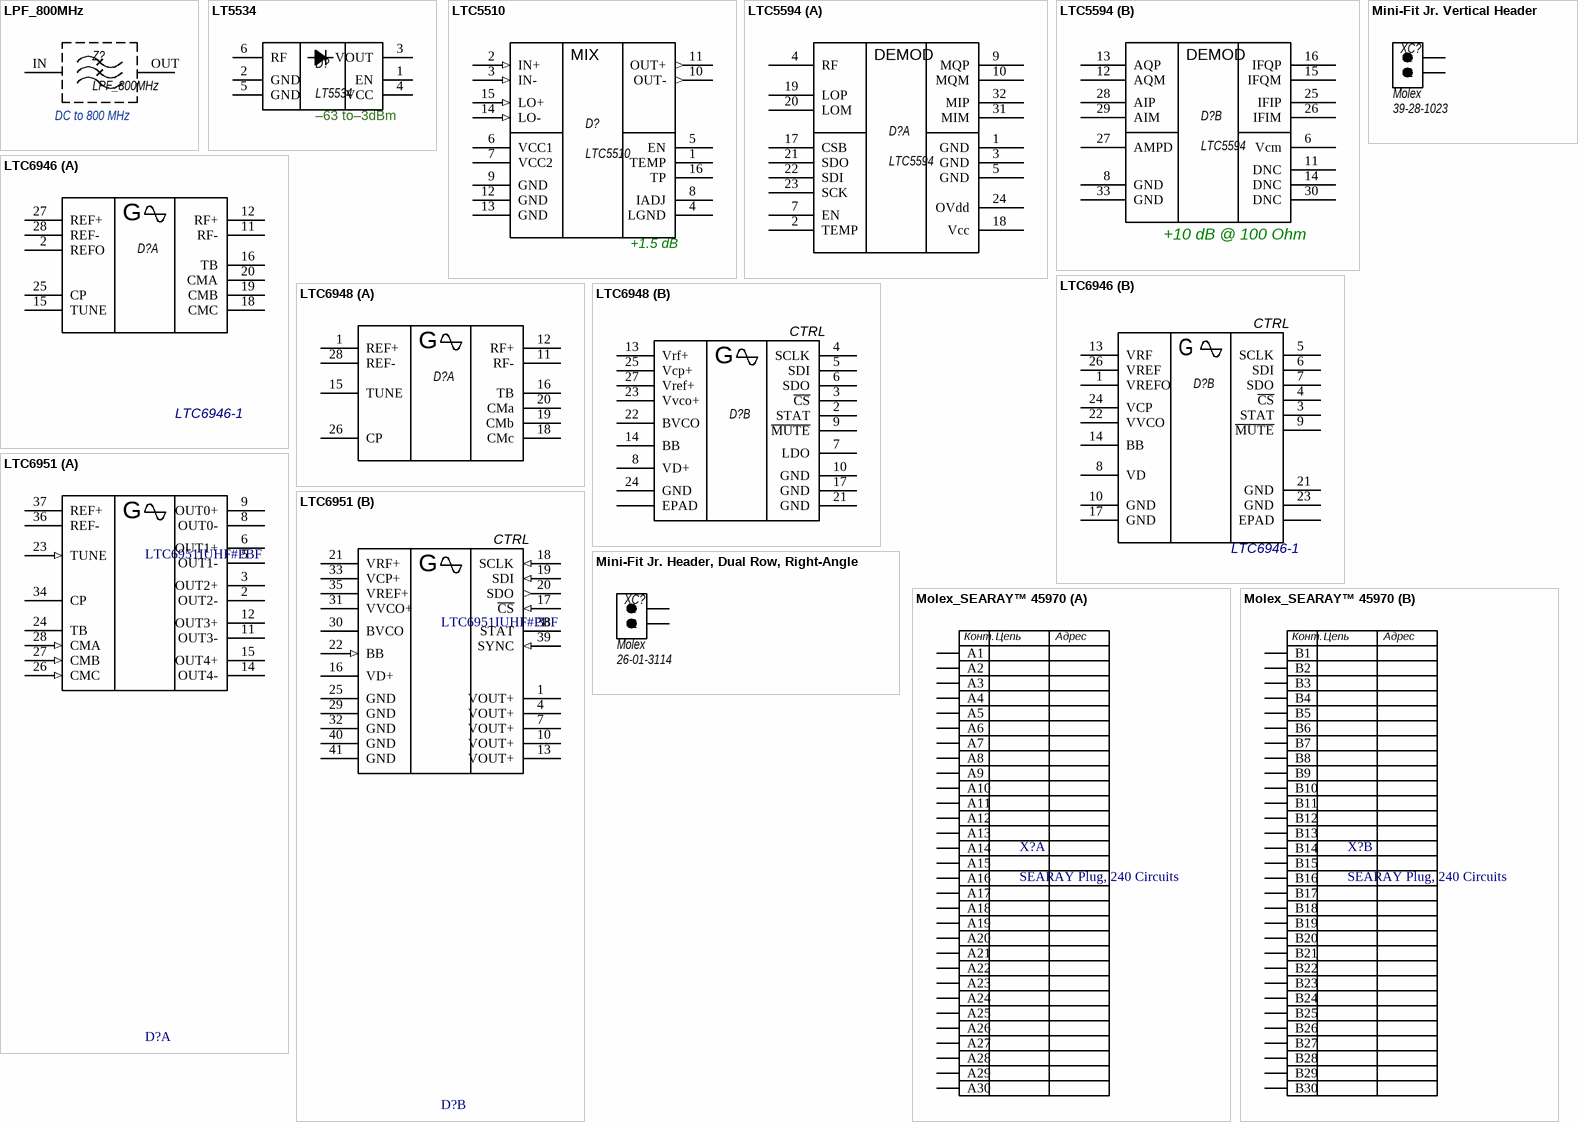
[diagram p2: symbols LPF_800MHz to Molex_SEARAY™ 45970]

## LPF_800MHz
designator Z?  Frequency: DC to 800 MHz  (net tie, no BOM)
Low Pass Filter; Name: Distributed low pass fiter; Type: Stripline Low Pass Filter
footprint LPF_800MHz_305um (stripline LPF)
pins: IN, OUT

## LT5534
designator D?  RF Input Power Range: –63 to–3dBm
50MHz to 3GHz monolithic RF power / detector; Manufacturer: Linear Technology; Voltage: Single 2.7V to 5.25V; Impedance: 2kΩ; Frequency Range: 50 to 3000 MHz; Name: LT5534; Package: 6-Lead SC70; Type: RF Power Detector; P/N: LT5534; Supplier 1: Digi-Key; Supplier Part Number 1: LT5534ESC6#TRMPBFCT-ND
footprint SC70
pins: 1 EN, 2 GND, 3 VOUT, 4 VCC, 5 GND, 6 RF

## LTC5510
designator D?
1MHz to 6GHz Wideband High Linearity Active Mixer; Manufacturer: Linear Technology; Voltage: 5V or 3.3V; P/N: LTC5510IUF#PBF; Name: LTC5510; Package: 16-Lead (4mm × 4mm) QFN; Temperature Range: –40°C to 105°C; Type: High Linearity Active Mixer; Supplier 1: Digi-Key; Supplier Part Number 1: LTC5510IUF#PBF-ND
footprint PQFN-16 (PQFN, 16-Leads, Body 4,00x4,00mm, Pitch 0,65mm, Thermal Pad 2,15x2,15mm, IPC Medium Density)
pins: 1 TEMP, 2 IN+ (in), 3 IN- (in), 4 LGND, 5 EN, 6 VCC1, 7 VCC2, 8 IADJ, 9 GND, 10 OUT- (out), 11 OUT+ (out), 12 GND, 13 GND, 14 LO- (in), 15 LO+ (in), 16 TP
text: MIX; +1.5 dB

## LTC5594
designator D?
Quadrature Demodulator; Manufacturer: Analog Devices; Type: High Linearity  I/Q Demodulator; P/N: LTC5594IUH#PBF; Name: LTC5594; Package: 32-Lead 5mm × 5mm QFN; Temperature Range: –40°C to 125°C; Supplier 1: Digi-Key; Supplier Part Number 1: LTC5594IUH#TRPBF-ND
footprint QFN-32 (QFN, 32-Leads, Body 5,00x5,00mm, Pitch 0,50mm, Thermal Pad 3,45x3,45mm, IPC Medium Density)
part A pins: 1 GND, 2 TEMP, 3 GND, 4 RF, 5 GND, 7 EN, 9 MQP, 10 MQM, 17 CSB, 18 Vcc, 19 LOP, 20 LOM, 21 SDO, 22 SDI, 23 SCK, 24 OVdd, 31 MIM, 32 MIP
part B pins: 6 Vcm, 8 GND, 11 DNC, 12 AQM, 13 AQP, 14 DNC, 15 IFQM, 16 IFQP, 25 IFIP, 26 IFIM, 27 AMPD, 28 AIP, 29 AIM, 30 DNC, 33 GND
part A text: DEMOD
part B text: DEMOD; +10 dB @ 100 Ohm

## LTC6946
designator D?  Name: LTC6946-1  (hidden comment: LTC6946)
The LTC®6946 is a high performance, low noise, 6.39GHz  phase-locked loop (PLL); Manufacturer: Linear Technology; Voltage: 3.15 V ~ 5.25 V; Type: Clock/Frequency Synthesizer (RF/IF), Integer N; P/N: LTC6946IUFD-1#PBF; Package: 28-QFN (4x5); Temperature Range: -40°C ~ 105°C; Supplier 1: Digi-Key; Supplier Part Number 1: LTC6946IUFD-1#PBF-ND
footprint QFN-28 (QFN, 28-Leads, Body 4,00x5,00mm, Pitch 0,50mm, Thermal Pad 2,50x3,50mm, IPC Medium Density)
part A pins: 2 REFO, 11 RF-, 12 RF+, 15 TUNE, 16 TB, 18 CMC, 19 CMB, 20 CMA, 25 CP, 27 REF+, 28 REF-
part B pins: 1 VREFO, 3 STAT, 4 ~{CS}, 5 SCLK, 6 SDI, 7 SDO, 8 VD, 9 ~{MUTE}, 10 GND, 13 VRF, 14 BB, 17 GND, 21 GND, 22 VVCO, 23 GND, 24 VCP, 26 VREF, 29 EPAD
part A text: G
part B text: CTRL; G

## LTC6948
designator D?, comment LTC6948-1  (value not drawn)
The LTC®LTC6948 is a high performance, low noise, 6.39GHz  phase-locked loop (PLL); Manufacturer: Linear Technology; Voltage: 3.15 V ~ 5.25 V; Type: Clock/Frequency Synthesizer (RF/IF), Integer N; P/N: LTC6948IUFD-1; Package: 28-QFN (4x5); Temperature Range: -40°C ~ 105°C; Supplier 1: Digi-Key; Supplier Part Number 1: 505-LTC6948IUFD-1#TRPBFCT-ND; Name: LTC6948-1
footprint QFN-28 (QFN, 28-Leads, Body 4,00x5,00mm, Pitch 0,50mm, Thermal Pad 2,50x3,50mm, IPC Medium Density)
part A pins: 1 REF+, 11 RF-, 12 RF+, 15 TUNE, 16 TB, 18 CMc, 19 CMb, 20 CMa, 26 CP, 28 REF-
part B pins: 2 STAT, 3 ~{CS}, 4 SCLK, 5 SDI, 6 SDO, 7 LDO, 8 VD+, 9 ~{MUTE}, 10 GND, 13 Vrf+, 14 BB, 17 GND, 21 GND, 22 BVCO, 23 Vvco+, 24 GND, 25 Vcp+, 27 Vref+, 29 EPAD
part A text: G
part B text: CTRL; G

## LTC6951
designator D?, comment LTC6951IUHF#PBF
Ultralow Jitter / Multioutput Clock Synthesizer / with Integrated VCO; Name: LTC6951; P/N: LTC6951IUHF#PBF
footprint Analog_Devices_UHF-40-05-08-1951_IPC_A
footprint Analog_Devices_UHF-40-05-08-1951_IPC_B
footprint Analog_Devices_UHF-40-05-08-1951_IPC_C
footprint Analog_Devices_UHF-40-05-08-1951_MFG
part A pins: 2 OUT2-, 3 OUT2+, 5 OUT1-, 6 OUT1+, 8 OUT0-, 9 OUT0+, 11 OUT3-, 12 OUT3+, 14 OUT4-, 15 OUT4+, 23 TUNE (in), 24 TB, 26 CMC (in), 27 CMB (in), 28 CMA (in), 34 CP, 36 REF-, 37 REF+
part B pins: 1 VOUT+, 4 VOUT+, 7 VOUT+, 10 VOUT+, 13 VOUT+, 16 VD+ (power), 17 ~{CS} (in), 18 SCLK (in), 19 SDI (in), 20 SDO (out), 21 VRF+, 22 BB (in), 25 GND (power), 29 GND (power), 30 BVCO, 31 VVCO+ (power), 32 GND (power), 33 VCP+ (power), 35 VREF+ (power), 38 STAT, 39 SYNC (in), 40 GND (power), 41 GND (power)
part A text: G
part B text: CTRL; G

## Mini-Fit Jr. Header, Dual Row, Right-Angle
designator XC?  Manufacturer: Molex  P/N: 26-01-3114  (hidden comment: Mini-Fit Jr. Header, Dual Row, Right-Angle)
Mini-Fit Jr. Header, Dual Row, Right-Angle, with Snap-in Plastic Peg PCB Lock; Mate With Series: 5557; Name: Mini-Fit Jr. Header, Dual Row, Right-Angle; Series: 5569; Type: Mini-Fit Jr. Header, Dual Row, Right-Angle; Mate With P/N: 39-01-2020
footprint Mini-Fit Jr. Header, Dual Row, Right-Angle
pins: 1, 2

## Mini-Fit Jr. Vertical Header
designator XC?  Manufacturer: Molex  P/N: 39-28-1023  (hidden comment: Mini-Fit Jr. Vertical Header)
4.20mm Pitch, Dual Row, 2 Circuits, without Snap-in Plastic Peg PCB Lock; Mate With Series: 5557; Name: Mini-Fit Jr. Vertical Header; Series: 5566; Type: Mini-Fit Jr. Vertical Header, 4.20mm Pitch, Dual Row, 2 Circuits, without Snap-in Plastic Peg PCB Lock; Mate With P/N: 39-01-2020
footprint Mini-Fit Jr. Vertical Header (4.20mm Pitch, Dual Row)
pins: 1, 2

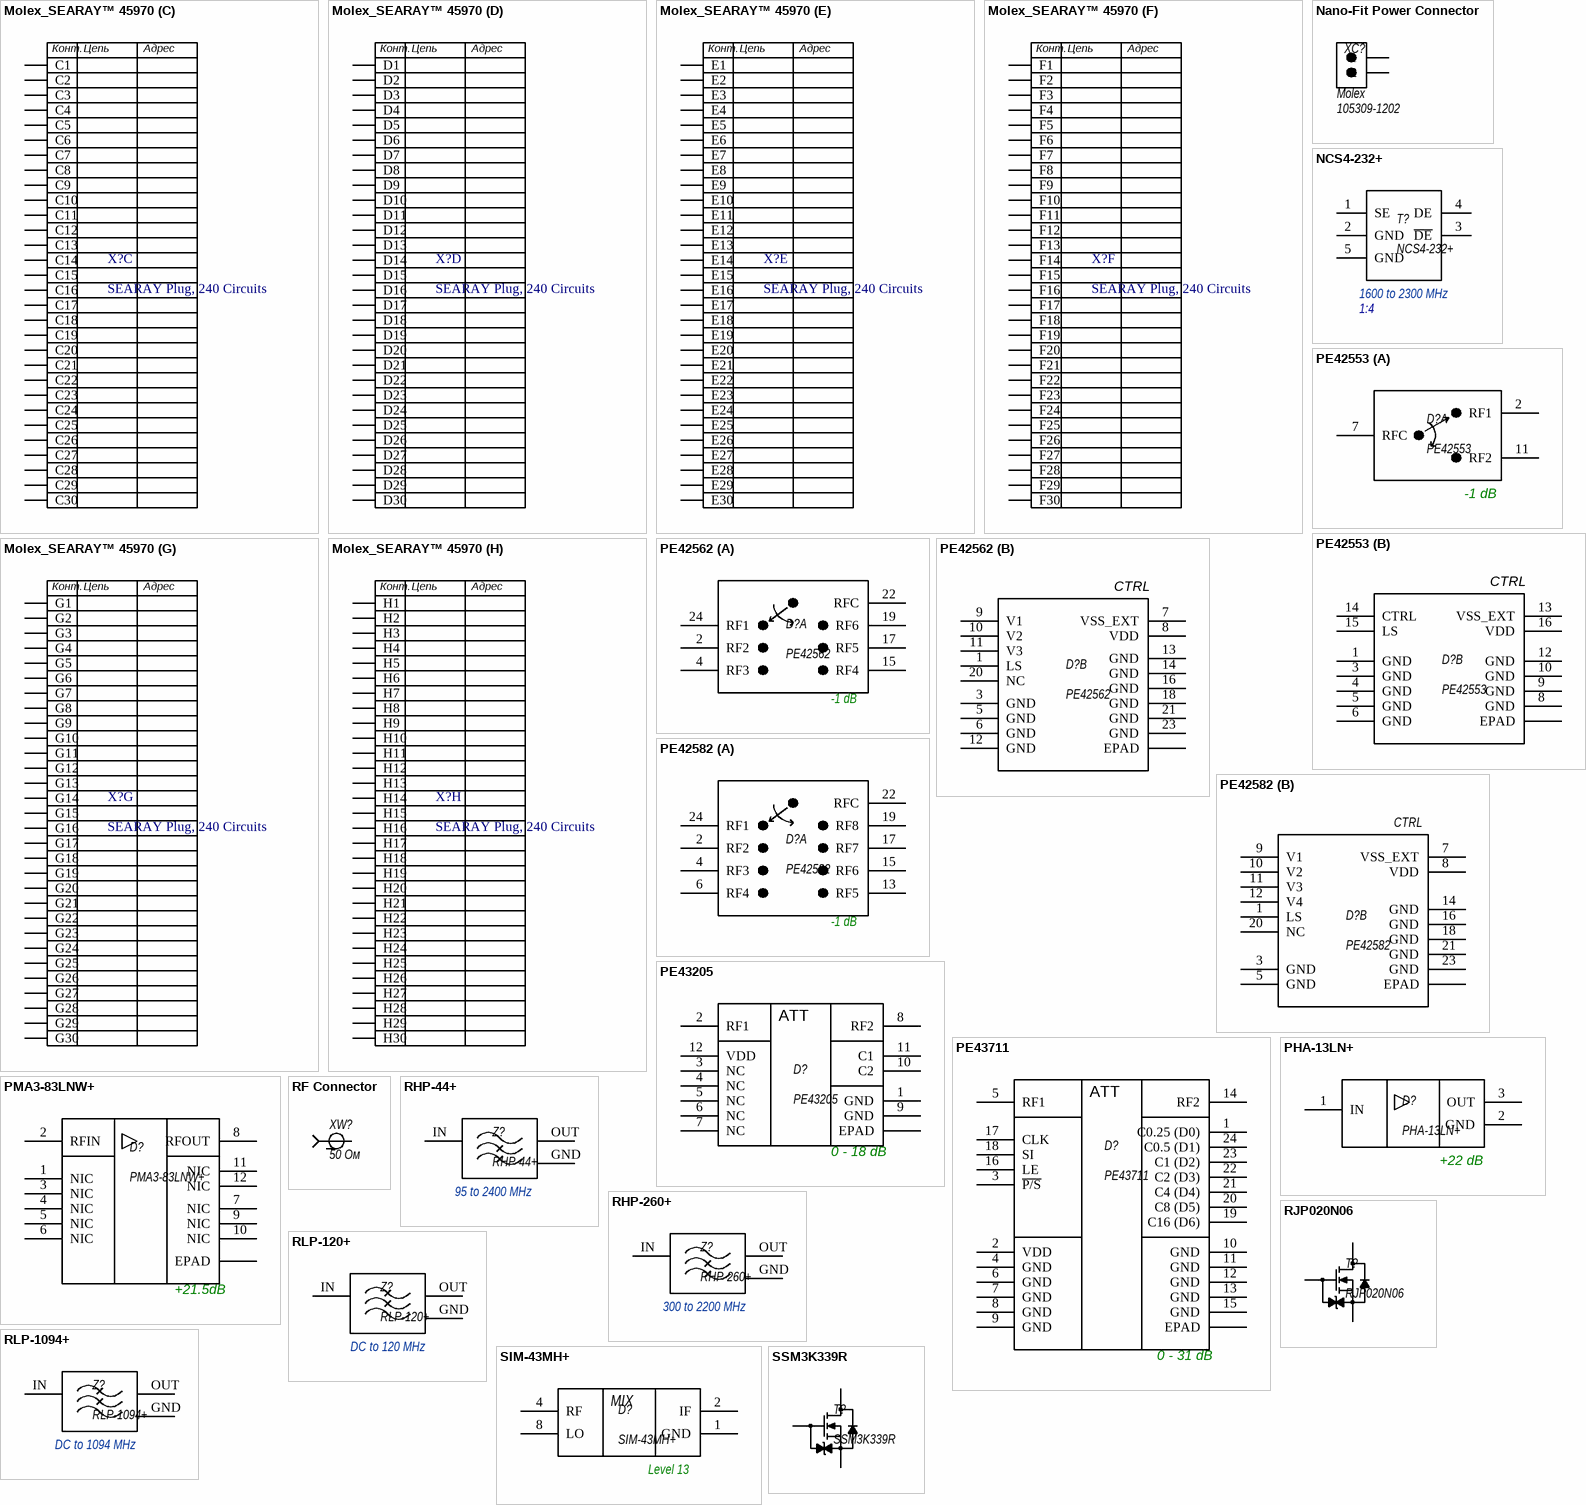
[diagram p3: symbols Molex_SEARAY™ 45970 to SSM3K339R]

## Molex_SEARAY™ 45970
designator X?, comment SEARAY Plug, 240 Circuits
1.27mm Pitch, SEARAY Plug, 240 Circuits, 2.00mm Unmated Height, 8 Rows, with Pegs; Manufacturer: Molex; Name: 459703185; Pitch: 0.050" (1.27mm); Number of Positions: 240; P/N: 45970-3185; Mates With: SEARAY™ 45971 Series; IsBGA: TRUE; Mates With P/N: 45971-3185; Series: SEARAY™ 45970; Number of Rows: 8; Mounting Type: Surface Mount
footprint Molex_459703185 (SEARAY Plug, 240 Circuits, 2.00mm Unmated Height, 8 Rows)
part A pins: A1, A2, A3, A4, A5, A6, A7, A8, A9, A10, A11, A12, A13, A14, A15, A16, A17, A18, A19, A20, A21, A22, A23, A24, A25, A26, A27, A28, A29, A30
part B pins: B1, B2, B3, B4, B5, B6, B7, B8, B9, B10, B11, B12, B13, B14, B15, B16, B17, B18, B19, B20, B21, B22, B23, B24, B25, B26, B27, B28, B29, B30
part C pins: C1, C2, C3, C4, C5, C6, C7, C8, C9, C10, C11, C12, C13, C14, C15, C16, C17, C18, C19, C20, C21, C22, C23, C24, C25, C26, C27, C28, C29, C30
part D pins: D1, D2, D3, D4, D5, D6, D7, D8, D9, D10, D11, D12, D13, D14, D15, D16, D17, D18, D19, D20, D21, D22, D23, D24, D25, D26, D27, D28, D29, D30
part E pins: E1, E2, E3, E4, E5, E6, E7, E8, E9, E10, E11, E12, E13, E14, E15, E16, E17, E18, E19, E20, E21, E22, E23, E24, E25, E26, E27, E28, E29, E30
part F pins: F1, F2, F3, F4, F5, F6, F7, F8, F9, F10, F11, F12, F13, F14, F15, F16, F17, F18, F19, F20, F21, F22, F23, F24, F25, F26, F27, F28, F29, F30
part G pins: G1, G2, G3, G4, G5, G6, G7, G8, G9, G10, G11, G12, G13, G14, G15, G16, G17, G18, G19, G20, G21, G22, G23, G24, G25, G26, G27, G28, G29, G30
part H pins: H1, H2, H3, H4, H5, H6, H7, H8, H9, H10, H11, H12, H13, H14, H15, H16, H17, H18, H19, H20, H21, H22, H23, H24, H25, H26, H27, H28, H29, H30
part A text: Конт.; Цепь; Адрес
part B text: Конт.; Цепь; Адрес
part C text: Конт.; Цепь; Адрес
part D text: Конт.; Цепь; Адрес
part E text: Конт.; Цепь; Адрес
part F text: Конт.; Цепь; Адрес
part G text: Конт.; Цепь; Адрес
part H text: Конт.; Цепь; Адрес

## Nano-Fit Power Connector
designator XC?, comment Manufacturer: Molex  P/N: 105309-1202  (hidden comment: Nano-Fit Vertical Header)
Through Hole, 2.50mm Pitch, Single Row, 2 Circuits; Mate With P/N: 105307-1202; Mate With Series: 105307; Name: Nano-Fit Vertical Header; Series: 105309; Type: Vertical Header, Through Hole, 2.50mm Pitch
footprint Nano-Fit Vertical Header (Through Hole, 2.50mm Pitch)
pins: 1, 2

## NCS4-232+
designator T?  Frequency: 1600 to 2300 MHz  Ratio: 1:4
RF Transformer; Manufacturer: Mini-Circuits; Name: NCS4-232+; P/N: NCS4-232+; Type: RF Transformer; Package: GE0805C-1
footprint GE0805C-10 (Diplexer)
pins: 1 SE, 2 GND, 3 ~{DE}, 4 DE, 5 GND

## PE42553
designator D?
HaRPTM technology-enhanced absorptive SPDT; Manufacturer: Peregrine Technical Solutions; P/N: PE42553A-Z; Type: SPDT RF Switch; Name: PE42553; Package: 16-lead 3 × 3 mm QFN; Supplier 1: Digi-Key; Supplier Part Number 1: 1046-1137-1-ND
footprint QFN-16 (QFN, 16-Leads, Body 3,00x3,00mm, Pitch 0,50mm, Thermal Pad 1,70x1,70mm, IPC Medium Density)
part A pins: 2 RF1, 7 RFC, 11 RF2
part B pins: 1 GND, 3 GND, 4 GND, 5 GND, 6 GND, 8 GND, 9 GND, 10 GND, 12 GND, 13 VSS_EXT, 14 CTRL, 15 LS, 16 VDD, 17 EPAD
part A text: -1 dB

## PE42562
designator D?
The PE42582 is a HaRP™ technology-enhanced absorptive SP6T RF switch; Manufacturer: Peregrine Technical Solutions; P/N: PE42562A-X; Name: PE42562; Package: 24-lead 4 × 4 × 0.85 mm QFN; Type: Absorptive SP6T RF switch
footprint QFN-24 (QFN, 24-Leads, Body 4,00x4,00mm, Pitch 0,50mm, Thermal Pad 2,70x2,70mm, IPC Medium Density)
part A pins: 2 RF2, 4 RF3, 15 RF4, 17 RF5, 19 RF6, 22 RFC, 24 RF1
part B pins: 1 LS, 3 GND, 5 GND, 6 GND, 7 VSS_EXT, 8 VDD, 9 V1, 10 V2, 11 V3, 12 GND, 13 GND, 14 GND, 16 GND, 18 GND, 20 NC, 21 GND, 23 GND, 25 EPAD
part A text: -1 dB
part B text: CTRL

## PE42582
designator D?
The PE42582 is a HaRP™ technology-enhanced absorptive SP8T RF switch; Manufacturer: Peregrine Technical Solutions; P/N: PE42582A-X; Name: PE42582; Package: 24-lead 4 × 4 × 0.85 mm QFN; Type: Absorptive SP8T RF switch
footprint QFN-24 (QFN, 24-Leads, Body 4,00x4,00mm, Pitch 0,50mm, Thermal Pad 2,70x2,70mm, IPC Medium Density)
part A pins: 2 RF2, 4 RF3, 6 RF4, 13 RF5, 15 RF6, 17 RF7, 19 RF8, 22 RFC, 24 RF1
part B pins: 1 LS, 3 GND, 5 GND, 7 VSS_EXT, 8 VDD, 9 V1, 10 V2, 11 V3, 12 V4, 14 GND, 16 GND, 18 GND, 20 NC, 21 GND, 23 GND, 25 EPAD
part A text: -1 dB
part B text: CTRL

## PE43205
designator D?
50Ω, HaRP™ technology-enhanced / fast switching 2-bit RF Digital Step Attenuator; Manufacturer: Peregrine Technical Solutions; Type: 2-bit, 18 dB; Name: PE43205; P/N: PE43205; Package: Green 12-lead 3x3 mm QFN; Supplier 1: Digi-Key; Supplier Part Number 1: 1046-1114-6-ND
footprint QFN-12
pins: 1 GND, 2 RF1, 3 NC, 4 NC, 5 NC, 6 NC, 7 NC, 8 RF2, 9 GND, 10 C2, 11 C1, 12 VDD, 13 EPAD
text: ATT; 0 - 18 dB

## PE43711
designator D?
The PE43711 is a 50Ω, HaRP™ technology-enhanced, 7-bit RF digital step attenuator; Manufacturer: Peregrine Technical Solutions; P/N: PE43711A-Z; Type: 7-bit RF digital step attenuator (DSA); Name: PE43711; Package: 24-lead 4 × 4 × 0.85 mm QFN; Supplier 1: Digi-Key; Supplier Part Number 1: 1046-1138-1-ND
footprint QFN-24 (QFN, 24-Leads, Body 4,00x4,00mm, Pitch 0,50mm, Thermal Pad 2,70x2,70mm, IPC Medium Density)
pins: 1 C0.25 (D0), 2 VDD, 3 ~{P/S}, 4 GND, 5 RF1, 6 GND, 7 GND, 8 GND, 9 GND, 10 GND, 11 GND, 12 GND, 13 GND, 14 RF2, 15 GND, 16 LE, 17 CLK, 18 SI, 19 C16 (D6), 20 C8 (D5), 21 C4 (D4), 22 C2 (D3), 23 C1 (D2), 24 C0.5 (D1), 25 EPAD
text: ATT; 0 - 31 dB

## PHA-13LN+
designator D?
Monolithic Amplifier; Manufacturer: Mini-Circuits; Type: LNA; Voltage: 3 to 5 V; NF: 0.9dB; Name: PHA-13LN+; Package: SOT89; P/N: PHA-13LN+
footprint SOT89 (SOT89, 3-Leads, Body 4,49x2,44mm, Pitch 1,50mm, Lead Span 4,0mm, IPC Medium Density)
pins: 1 IN, 2 GND, 3 OUT
text: +22 dB

## PMA3-83LNW+
designator D?
PHEMT based wideband, low noise MMIC amplifier; Manufacturer: Mini-Circuits; Type: LNA; Frequency Range: 0.4 to 8.0 GHz; Impedance: 50Ω; Name: PMA3-83LNW+; Package: DQ1225; P/N: PMA3-83LNW+; Supplier 1: Digi-Key; Supplier Part Number 1: 3157-PMA3-83LNW+CT-ND
footprint DQ1225 (QFN, 12-Leads, Body 3,00x3,00mm, Pitch 0,51mm, Thermal Pad 1,45x1,45mm, IPC Medium Density)
pins: 1 NIC, 2 RFIN, 3 NIC, 4 NIC, 5 NIC, 6 NIC, 7 NIC, 8 RFOUT, 9 NIC, 10 NIC, 11 NIC, 12 NIC, 13 EPAD
text: +21.5dB

## RF Connector
designator XW?, comment 50 Ом
50 Ohms, SMA Jack, Vertica; Manufacturer: Molex; Impedance: 50Ω; P/N: 0732511352; Name: SMA Jack; Type: 50 Ohms, SMA Jack, Vertical, PCB SMT, Gold (Au) Body; Supplier 1: Digi-Key; Supplier Part Number 1: WM9458-ND
footprint MOLEX SD-73251-135 (Gold)
pins: G GND, S RF

## RHP-44+
designator Z?  Frequency: 95 to 2400 MHz
High Pass Filter; Manufacturer: Mini-Circuits; Name: RHP-44+; P/N: RHP-44+; Type: High Pass Filter; Package: GP731
footprint GP731 (Low Pass Filter)
pins: GND, IN, OUT

## RHP-260+
designator Z?  Frequency: 300 to 2200 MHz
High Pass Filter; Manufacturer: Mini-Circuits; Impedance: 50Ω; Name: RHP-260+; P/N: RHP-260+; Type: High Pass Filter; Package: GP731
footprint GP731 (Low Pass Filter)
pins: GND, IN, OUT

## RJP020N06
designator T?
N-Channel MOSFET; Manufacturer: Rohm Semiconductor; Channel Resistance: 240 mOhm; Current: 2A; Power Dissipation: 0.83W; Type: TO-243AA; Voltage: 60V; Name: RJP020N06; Package: SOT-23; P/N: RJP020N06; Supplier 1: Digi-Key; Supplier Part Number 1: RJP020N06T100DKR-ND
footprint SOT89 (SOT89, 3-Leads, Body 4,49x2,44mm, Pitch 1,50mm, Lead Span 4,0mm, IPC Medium Density)
pins: 1 G, 2 D, 3 S

## RLP-120+
designator Z?  Frequency: DC to 120 MHz
Low Pass Filter; Manufacturer: Mini-Circuits; Name: RLP-120+; P/N: RLP-120+; Type: Low Pass Filter; Package: GP731
footprint GP731 (Low Pass Filter)
pins: GND, IN, OUT

## RLP-1094+
designator Z?  Frequency: DC to 1094 MHz
Low Pass Filter; Manufacturer: Mini-Circuits; Name: RLP-1094+; P/N: RLP-1094+; Type: Low Pass Filter; Package: GP731
footprint GP731 (Low Pass Filter)
pins: GND, IN, OUT

## SIM-43MH+
designator D?
Frequency Mixer; Manufacturer: Mini-Circuits; Power Level: +13dBm; Name: SIM-43MH+; Package: HV1195; Type: Frequency Mixer; P/N: SIM-43MH+
footprint SIM-43MH+ (Frequency Mixer)
pins: 1 GND, 2 IF, 4 RF, 8 LO
text: MIX; Level 13

## SSM3K339R
designator T?
N-Channel MOSFET; Manufacturer: Toshiba; Channel Resistance: 185 mOhm; Current: 2A; Power Dissipation: 1W; Voltage: 40V; Name: SSM3K339R; Package: SOT-23F; P/N: SSM3K339R
footprint SOT-23
pins: 1 G, 2 S, 3 D

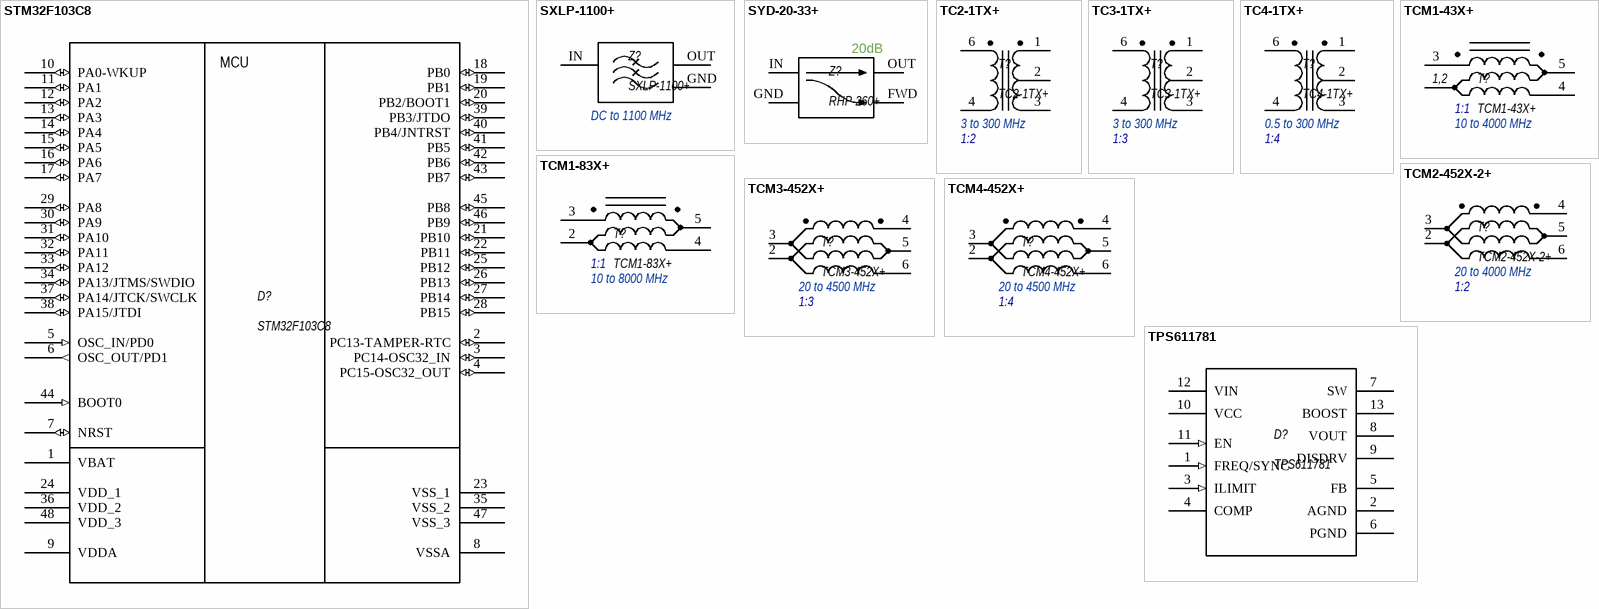
[diagram p4: symbols STM32F103C8 to TPS611781]

## STM32F103C8
designator D?
Medium-density performance line ARM®-based 32-bit MCU; Manufacturer: STMicroelectronics; Type: ARM® 32-bit Cortex®-M3 CPU; P/N: STM32F103C8T6; Voltage: 2 V ~ 3.6 V; Package: 48-LQFP; Supplier 1: Digi-Key; Supplier Part Number 1: 497-6063-ND
footprint LQFP-48N (TSQFP, 48-Leads, Body 7,00x7,00mm, Pitch 0,50mm, IPC Medium Density)
pins: 1 VBAT (power), 2 PC13-TAMPER-RTC (io), 3 PC14-OSC32_IN (io), 4 PC15-OSC32_OUT (io), 5 OSC_IN/PD0 (in), 6 OSC_OUT/PD1 (out), 7 NRST (io), 8 VSSA (power), 9 VDDA (power), 10 PA0-WKUP (io), 11 PA1 (io), 12 PA2 (io), 13 PA3 (io), 14 PA4 (io), 15 PA5 (io), 16 PA6 (io), 17 PA7 (io), 18 PB0 (io), 19 PB1 (io), 20 PB2/BOOT1 (io), 21 PB10 (io), 22 PB11 (io), 23 VSS_1 (power), 24 VDD_1 (power), 25 PB12 (io), 26 PB13 (io), 27 PB14 (io), 28 PB15 (io), 29 PA8 (io), 30 PA9 (io), 31 PA10 (io), 32 PA11 (io), 33 PA12 (io), 34 PA13/JTMS/SWDIO (io), 35 VSS_2 (power), 36 VDD_2 (power), 37 PA14/JTCK/SWCLK (io), 38 PA15/JTDI (io), 39 PB3/JTDO (io), 40 PB4/JNTRST (io), 41 PB5 (io), 42 PB6 (io), 43 PB7 (io), 44 BOOT0 (in), 45 PB8 (io), 46 PB9 (io), 47 VSS_3 (power), 48 VDD_3 (power)
text: MCU

## SXLP-1100+
designator Z?  Frequency: DC to 1100 MHz
Low Pass Filter; Manufacturer: Mini-Circuits; Name: SXLP-1100+; P/N: SXLP-1100+; Type: Low Pass Filter; Package: HF1139
footprint HF1139 (Low Pass Filter)
pins: GND, IN, OUT

## SYD-20-33+
designator Z?, comment RHP-260+  Coupling: 20dB
Directional Coupler; Manufacturer: Mini-Circuits; Name: SYD-20-33+; Impedance: 50Ω; Frequency: 30 to 3000 MHz; P/N: SYD-20-33+; Type: Directional Coupler; Package: AH202
footprint AH202 (Mini-Circuits)
pins: FWD, GND, IN, OUT

## TC2-1TX+
designator T?  Frequency: 3 to 300 MHz  Ratio: 1:2
RF Transformer; Manufacturer: Mini-Circuits; Name: TC2-1TX+; P/N: TC2-1TX+; Type: RF Transformer; Package: AT1521
footprint AT1521 (RF Transformer)
pins: 1, 2, 3, 4, 6

## TC3-1TX+
designator T?  Frequency: 3 to 300 MHz  Ratio: 1:3
RF Transformer; Manufacturer: Mini-Circuits; Name: TC3-1TX+; P/N: TC3-1TX+; Type: RF Transformer; Package: AT1521
footprint AT1521 (RF Transformer)
pins: 1, 2, 3, 4, 6

## TC4-1TX+
designator T?  Frequency: 0.5 to 300 MHz  Ratio: 1:4
RF Transformer; Manufacturer: Mini-Circuits; Name: TC4-1TX+; P/N: TC4-1TX+; Type: RF Transformer; Package: AT1521
footprint AT1521 (RF Transformer)
pins: 1, 2, 3, 4, 6

## TCM1-43X+
designator T?  Frequency: 10 to 4000 MHz  Ratio: 1:1
RF Transformer; Manufacturer: Mini-Circuits; Name: TCM1-43X+; P/N: TCM1-43X+; Type: RF Transformer; Package: DB1627
footprint DB1627 (RF Transformer)
pins: 1 1,2, 2, 3, 4, 5

## TCM1-83X+
designator T?  Frequency: 10 to 8000 MHz  Ratio: 1:1
RF Transformer; Manufacturer: Mini-Circuits; Name: TCM1-83X+; P/N: TCM1-83X+; Type: RF Transformer; Package: DB1627
footprint DB1627 (RF Transformer)
pins: 2, 3, 4, 5

## TCM2-452X-2+
designator T?  Frequency: 20 to 4000 MHz  Ratio: 1:2
RF Transformer; Manufacturer: Mini-Circuits; Name: TCM2-452X-2+; P/N: TCM2-452X-2+; Type: RF Transformer; Package: DB1627
footprint DB1627 (RF Transformer)
pins: 2, 3, 4, 5, 6

## TCM3-452X+
designator T?  Frequency: 20 to 4500 MHz  Ratio: 1:3
RF Transformer; Manufacturer: Mini-Circuits; Name: TCM3-452X+; P/N: TCM3-452X+; Type: RF Transformer; Package: DB1627
footprint DB1627 (RF Transformer)
pins: 2, 3, 4, 5, 6

## TCM4-452X+
designator T?  Frequency: 20 to 4500 MHz  Ratio: 1:4
RF Transformer; Manufacturer: Mini-Circuits; Name: TCM3-452X+; P/N: TCM3-452X+; Type: RF Transformer; Package: DB1627
footprint DB1627 (RF Transformer)
pins: 2, 3, 4, 5, 6

## TPS611781
designator D?
10-A Fully-Integrated Synchronous Boost with Load Disconnect Control; Manufacturer: Texas Instruments; Voltage: 4.5 V to 20 V; P/N: TPS611781RNW; Current: 10 A; Name: TPS611781; Package: 13-VQFN-HR (3.5x3.0); Temperature Range: –40°C to 125°C; Type: Synchronous Boost; Supplier 1: Digi-Key; Supplier Part Number 1: 296-46568-1-ND
footprint TPS611781x (QFN, 24-Leads, Body 4,00x4,00mm, Pitch 0,50mm, PLASTIC SMALL OUTLINE - NO LEAD)
pins: 1 FREQ/SYNC (in), 2 AGND, 3 ILIMIT (in), 4 COMP, 5 FB, 6 PGND, 7 SW, 8 VOUT, 9 DISDRV, 10 VCC, 11 EN (in), 12 VIN, 13 BOOST

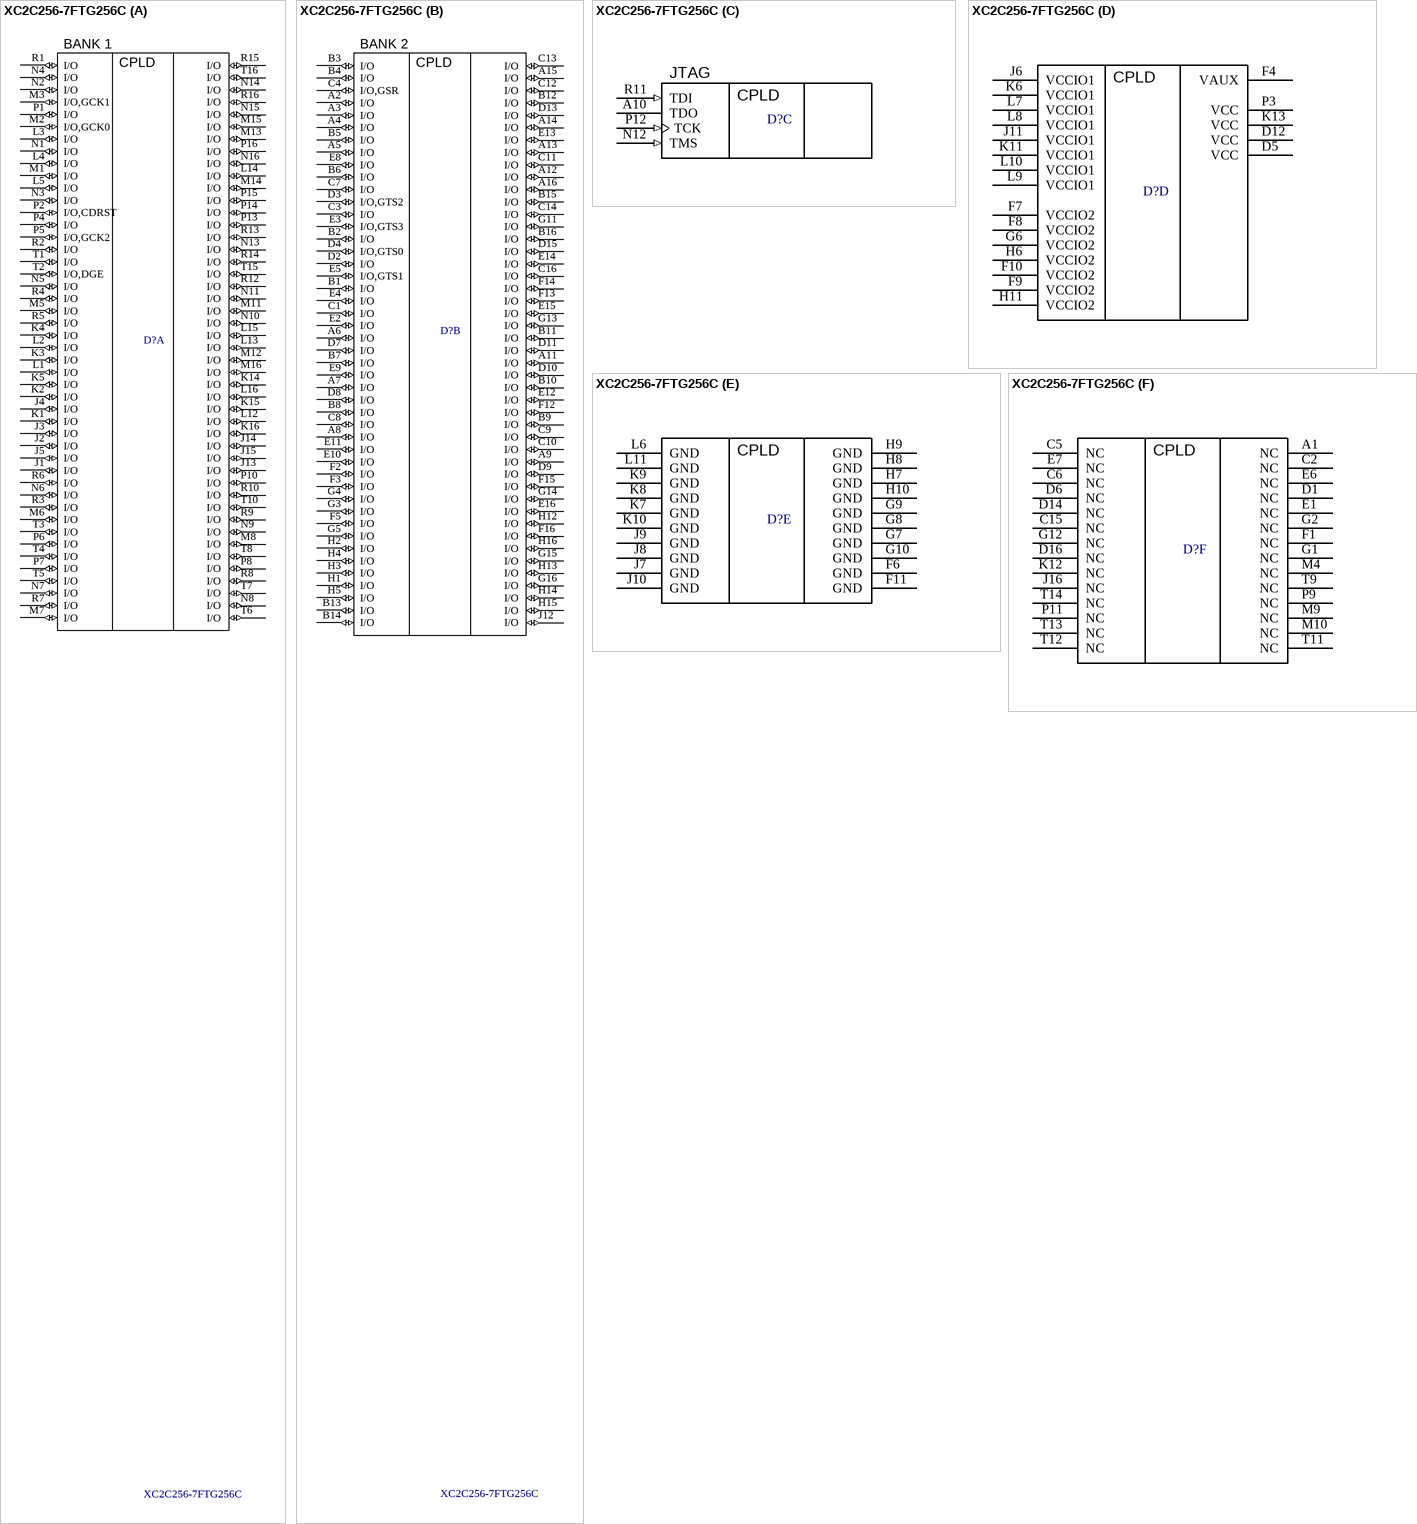
[diagram p5: symbol XC2C256-7FTG256C]

## XC2C256-7FTG256C
designator D?
CoolRunner-II 1.8V, 256 Macrocell CPLD, 184 User I/Os, 256-Ball FTBGA, Commercial Grade, Pb-Free; Code_JEDEC: MS-034-AAF-1*; PackageVersion: ver1.3, Oct-2007; PackageReference: FTG256; PackageDescription: 256-Ball Fine Pitch Thin Ball Grid Array 1.00 mm Pitch (FTG256) - Pb-Free; DatasheetVersion: ver3.2, Mar-2007; PartNumber: XC2C256-7FTG256C; P/N: XC2C256-7FTG256C; Name: XC2C256-7FTG256C; Type: CPLD
footprint FTG256 (BGA, 256-Leads, Body 17x17mm, Pitch 1mm)
part A pins: J1 I/O (io), J2 I/O (io), J3 I/O (io), J4 I/O (io), J5 I/O (io), J13 I/O (io), J14 I/O (io), J15 I/O (io), K1 I/O (io), K2 I/O (io), K3 I/O (io), K4 I/O (io), K5 I/O (io), K14 I/O (io), K15 I/O (io), K16 I/O (io), L1 I/O (io), L2 I/O (io), L3 I/O (io), L4 I/O (io), L5 I/O (io), L12 I/O (io), L13 I/O (io), L14 I/O (io), L15 I/O (io), L16 I/O (io), M1 I/O (io), M2 I/O,GCK0 (io), M3 I/O,GCK1 (io), M5 I/O (io), M6 I/O (io), M7 I/O (io), M8 I/O (io), M11 I/O (io), M12 I/O (io), M13 I/O (io), M14 I/O (io), M15 I/O (io), M16 I/O (io), N1 I/O (io), N2 I/O (io), N3 I/O (io), N4 I/O (io), N5 I/O (io), N6 I/O (io), N7 I/O (io), N8 I/O (io), N9 I/O (io), N10 I/O (io), N11 I/O (io), N13 I/O (io), N14 I/O (io), N15 I/O (io), N16 I/O (io), P1 I/O (io), P2 I/O,CDRST (io), P4 I/O (io), P5 I/O,GCK2 (io), P6 I/O (io), P7 I/O (io), P8 I/O (io), P10 I/O (io), P13 I/O (io), P14 I/O (io), P15 I/O (io), P16 I/O (io), R1 I/O (io), R2 I/O (io), R3 I/O (io), R4 I/O (io), R5 I/O (io), R6 I/O (io), R7 I/O (io), R8 I/O (io), R9 I/O (io), R10 I/O (io), R12 I/O (io), R13 I/O (io), R14 I/O (io), R15 I/O (io), R16 I/O (io), T1 I/O (io), T2 I/O,DGE (io), T3 I/O (io), T4 I/O (io), T5 I/O (io), T6 I/O (io), T7 I/O (io), T8 I/O (io), T10 I/O (io), T15 I/O (io), T16 I/O (io)
part B pins: A2 I/O (io), A3 I/O (io), A4 I/O (io), A5 I/O (io), A6 I/O (io), A7 I/O (io), A8 I/O (io), A9 I/O (io), A11 I/O (io), A12 I/O (io), A13 I/O (io), A14 I/O (io), A15 I/O (io), A16 I/O (io), B1 I/O (io), B2 I/O (io), B3 I/O (io), B4 I/O (io), B5 I/O (io), B6 I/O (io), B7 I/O (io), B8 I/O (io), B9 I/O (io), B10 I/O (io), B11 I/O (io), B12 I/O (io), B13 I/O (io), B14 I/O (io), B15 I/O (io), B16 I/O (io), C1 I/O (io), C3 I/O (io), C4 I/O,GSR (io), C7 I/O (io), C8 I/O (io), C9 I/O (io), C10 I/O (io), C11 I/O (io), C12 I/O (io), C13 I/O (io), C14 I/O (io), C16 I/O (io), D2 I/O (io), D3 I/O,GTS2 (io), D4 I/O,GTS0 (io), D7 I/O (io), D8 I/O (io), D9 I/O (io), D10 I/O (io), D11 I/O (io), D13 I/O (io), D15 I/O (io), E2 I/O (io), E3 I/O,GTS3 (io), E4 I/O (io), E5 I/O,GTS1 (io), E8 I/O (io), E9 I/O (io), E10 I/O (io), E11 I/O (io), E12 I/O (io), E13 I/O (io), E14 I/O (io), E15 I/O (io), E16 I/O (io), F2 I/O (io), F3 I/O (io), F5 I/O (io), F12 I/O (io), F13 I/O (io), F14 I/O (io), F15 I/O (io), F16 I/O (io), G3 I/O (io), G4 I/O (io), G5 I/O (io), G11 I/O (io), G13 I/O (io), G14 I/O (io), G15 I/O (io), G16 I/O (io), H1 I/O (io), H2 I/O (io), H3 I/O (io), H4 I/O (io), H5 I/O (io), H12 I/O (io), H13 I/O (io), H14 I/O (io), H15 I/O (io), H16 I/O (io), J12 I/O (io)
part C pins: A10 TDO, N12 TMS (in), P12 TCK (in), R11 TDI (in)
part D pins: D5 VCC (power), D12 VCC (power), F4 VAUX (power), F7 VCCIO2 (power), F8 VCCIO2 (power), F9 VCCIO2 (power), F10 VCCIO2 (power), G6 VCCIO2 (power), H6 VCCIO2 (power), H11 VCCIO2 (power), J6 VCCIO1 (power), J11 VCCIO1 (power), K6 VCCIO1 (power), K11 VCCIO1 (power), K13 VCC (power), L7 VCCIO1 (power), L8 VCCIO1 (power), L9 VCCIO1 (power), L10 VCCIO1 (power), P3 VCC (power)
part E pins: F6 GND (power), F11 GND (power), G7 GND (power), G8 GND (power), G9 GND (power), G10 GND (power), H7 GND (power), H8 GND (power), H9 GND (power), H10 GND (power), J7 GND (power), J8 GND (power), J9 GND (power), J10 GND (power), K7 GND (power), K8 GND (power), K9 GND (power), K10 GND (power), L6 GND (power), L11 GND (power)
part F pins: A1 NC, C2 NC, C5 NC, C6 NC, C15 NC, D1 NC, D6 NC, D14 NC, D16 NC, E1 NC, E6 NC, E7 NC, F1 NC, G1 NC, G2 NC, G12 NC, J16 NC, K12 NC, M4 NC, M9 NC, M10 NC, P9 NC, P11 NC, T9 NC, T11 NC, T12 NC, T13 NC, T14 NC
part A text: BANK 1
part B text: BANK 2
part C text: JTAG